# Altium schematic symbol library Enset.SCHLIB: 118 symbols
Pins are listed as number, name and electrical type; pins without a type are passive.

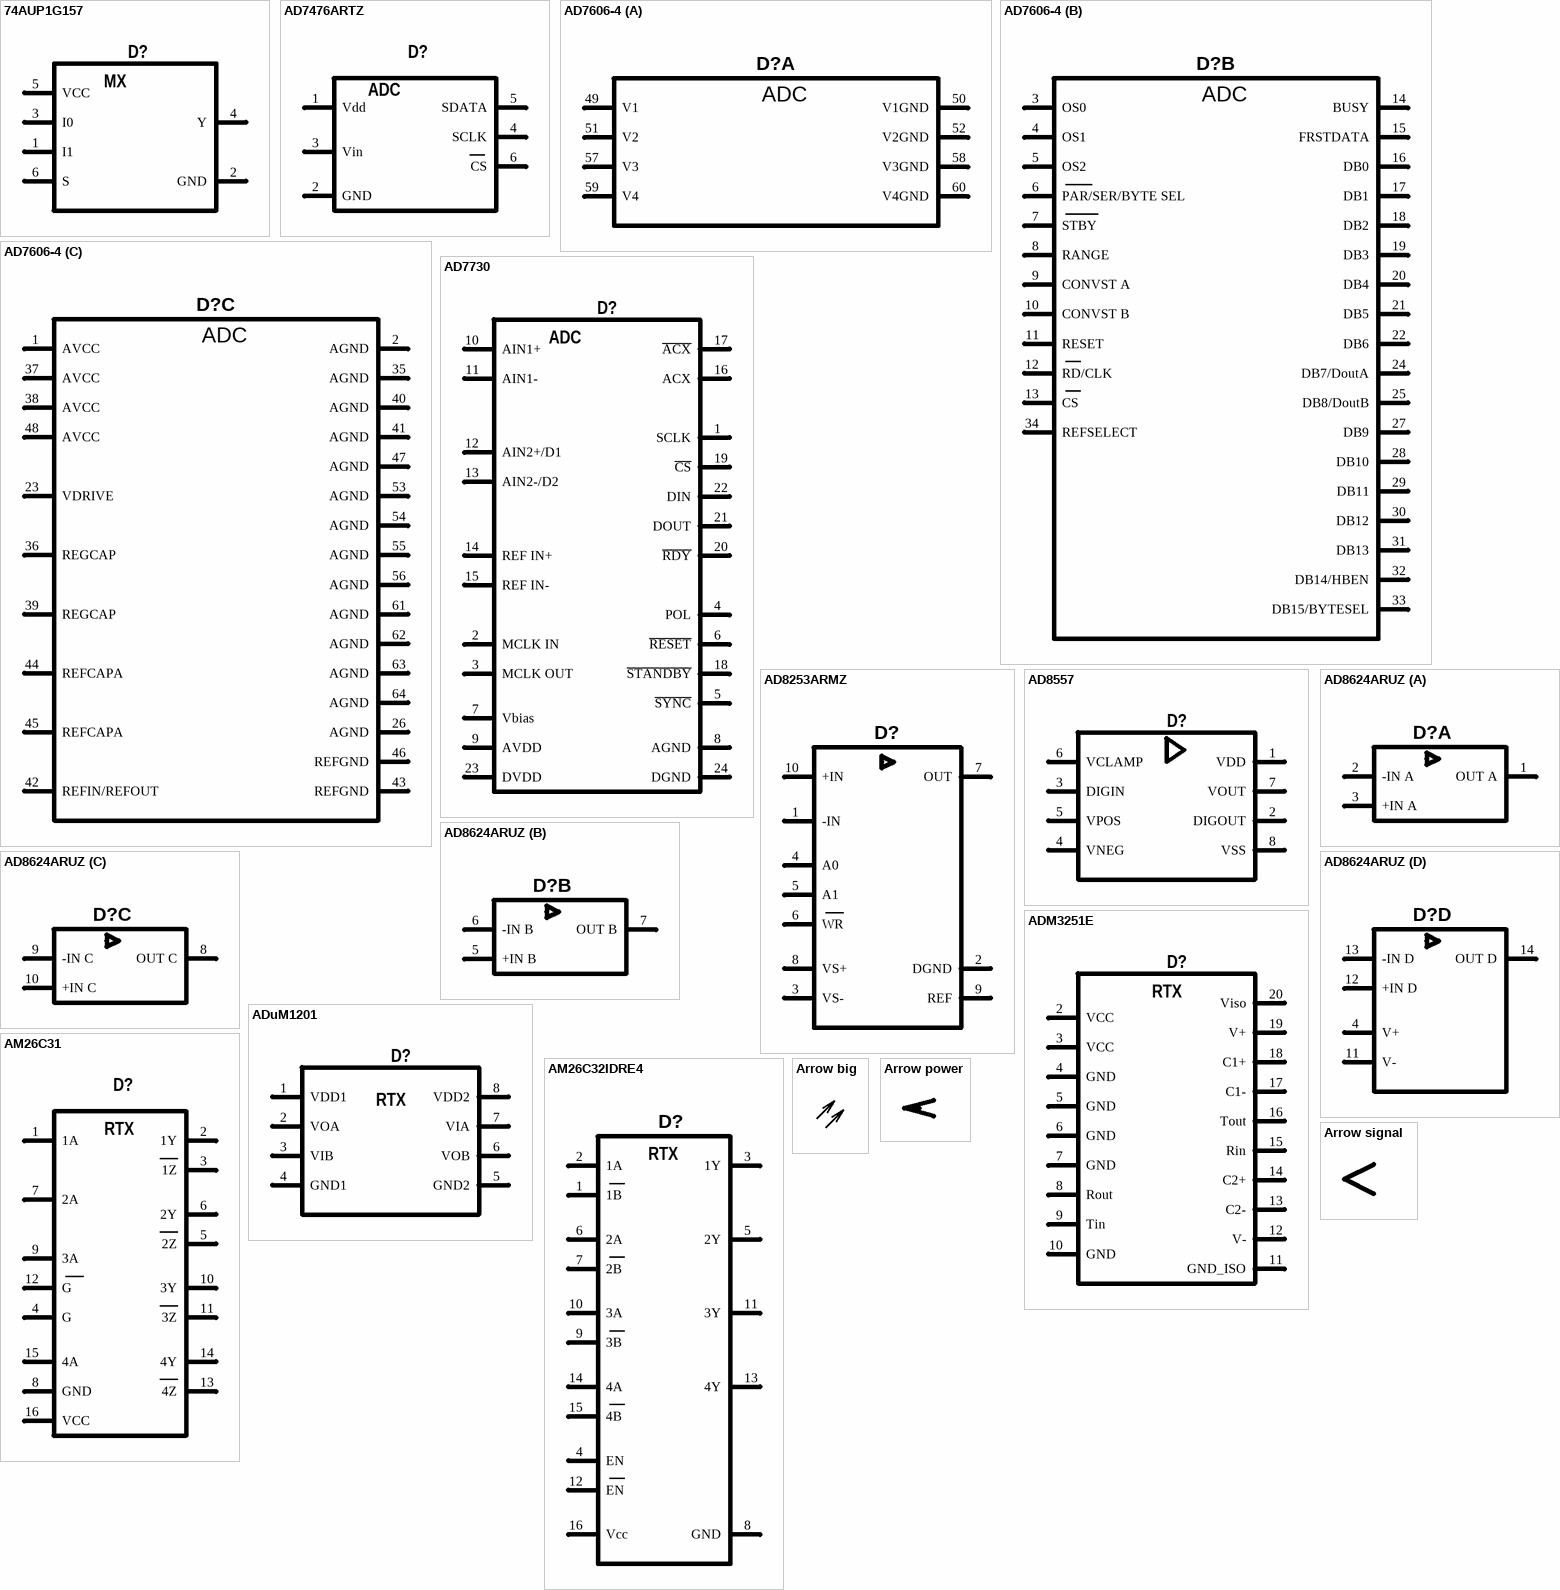
[diagram p0: symbols 74AUP1G157 to Arrow signal]

## 74AUP1G157
designator D?, comment 74AUP1G157GW  (value not drawn)
Value: 74AUP1G157GW
pins: 1 I1, 2 GND, 3 I0, 4 Y, 5 VCC, 6 S
text: MX

## AD7476ARTZ
designator D?  (value not drawn)
Value: AD7476ARTZ
pins: 1 Vdd, 2 GND, 3 Vin, 4 SCLK, 5 SDATA, 6 CS
text: ADC

## AD7606-4
designator D?, comment AD7606BSTZ  (value not drawn)
Value: AD7606BSTZ
footprint LQFP64_L (Thin QFP, 64-Leads, Body 10x10mm, Pitch 0.5mm, IPC High Density)
part A pins: 49 V1, 50 V1GND, 51 V2, 52 V2GND, 57 V3, 58 V3GND, 59 V4, 60 V4GND
part B pins: 3 OS0, 4 OS1, 5 OS2, 6 PAR/SER/BYTE SEL, 7 STBY, 8 RANGE, 9 CONVST A, 10 CONVST B, 11 RESET, 12 RD/CLK, 13 CS, 14 BUSY, 15 FRSTDATA, 16 DB0, 17 DB1, 18 DB2, 19 DB3, 20 DB4, 21 DB5, 22 DB6, 24 DB7/DoutA, 25 DB8/DoutB, 27 DB9, 28 DB10, 29 DB11, 30 DB12, 31 DB13, 32 DB14/HBEN, 33 DB15/BYTESEL, 34 REFSELECT
part C pins: 1 AVCC, 2 AGND, 23 VDRIVE, 26 AGND, 35 AGND, 36 REGCAP, 37 AVCC, 38 AVCC, 39 REGCAP, 40 AGND, 41 AGND, 42 REFIN/REFOUT, 43 REFGND, 44 REFCAPA, 45 REFCAPA, 46 REFGND, 47 AGND, 48 AVCC, 53 AGND, 54 AGND, 55 AGND, 56 AGND, 61 AGND, 62 AGND, 63 AGND, 64 AGND
part A text: ADC
part B text: ADC
part C text: ADC

## AD7730
designator D?  (value not drawn)
Value: AD7730
pins: 1 SCLK, 2 MCLK IN, 3 MCLK OUT, 4 POL, 5 ~{SYNC}, 6 ~{RESET}, 7 Vbias, 8 AGND, 9 AVDD, 10 AIN1+, 11 AIN1-, 12 AIN2+/D1, 13 AIN2-/D2, 14 REF IN+, 15 REF IN-, 16 ACX, 17 ~{ACX}, 18 ~{STANDBY}, 19 ~{CS}, 20 ~{RDY}, 21 DOUT, 22 DIN, 23 DVDD, 24 DGND
text: ADC

## AD8253ARMZ
designator D?  (value not drawn)
Value: AD8253ARMZ
footprint MSOP10 (MSOP 10-Leads)
pins: 1 -IN, 2 DGND, 3 VS-, 4 A0, 5 A1, 6 WR, 7 OUT, 8 VS+, 9 REF, 10 +IN

## AD8557
designator D?  (value not drawn)
Value: *
pins: 1 VDD, 2 DIGOUT, 3 DIGIN, 4 VNEG, 5 VPOS, 6 VCLAMP, 7 VOUT, 8 VSS

## AD8624ARUZ
designator D?  (value not drawn)
Value: AD8624ARUZ
footprint TSSOP14 (TSOP, 14-Leads, Body 5x4.4mm, Pitch 0.65mm)
part A pins: 1 OUT A, 2 -IN A, 3 +IN A
part B pins: 5 +IN B, 6 -IN B, 7 OUT B
part C pins: 8 OUT C, 9 -IN C, 10 +IN C
part D pins: 4 V+, 11 V-, 12 +IN D, 13 -IN D, 14 OUT D

## ADM3251E
designator D?
Parameter 1: ADM3251EARWZ
pins: 2 VCC, 3 VCC, 4 GND, 5 GND, 6 GND, 7 GND, 8 Rout, 9 Tin, 10 GND, 11 GND_ISO, 12 V-, 13 C2-, 14 C2+, 15 Rin, 16 Tout, 17 C1-, 18 C1+, 19 V+, 20 Viso
text: RTX

## ADuM1201
designator D?
Parameter 1: ADuM1201ARZ
pins: 1 VDD1, 2 VOA, 3 VIB, 4 GND1, 5 GND2, 6 VOB, 7 VIA, 8 VDD2
text: RTX

## AM26C31
designator D?, comment AM26C31IPW  (value not drawn)
Value: AM26C31IPW
pins: 1 1A, 2 1Y, 3 1Z, 4 G, 5 2Z, 6 2Y, 7 2A, 8 GND, 9 3A, 10 3Y, 11 3Z, 12 G, 13 4Z, 14 4Y, 15 4A, 16 VCC
text: RTX

## AM26C32IDRE4
designator D?  (value not drawn)
Differential receiver; Value: AM26C32IDRE4
pins: 1 1B, 2 1A, 3 1Y, 4 EN, 5 2Y, 6 2A, 7 2B, 8 GND, 9 3B, 10 3A, 11 3Y, 12 EN, 13 4Y, 14 4A, 15 4B, 16 Vcc
text: RTX

## Arrow big
designator *?  (value not drawn)  (graphical)

## Arrow power
designator *?  (graphical)

## Arrow signal
designator *?  (value not drawn)  (graphical)

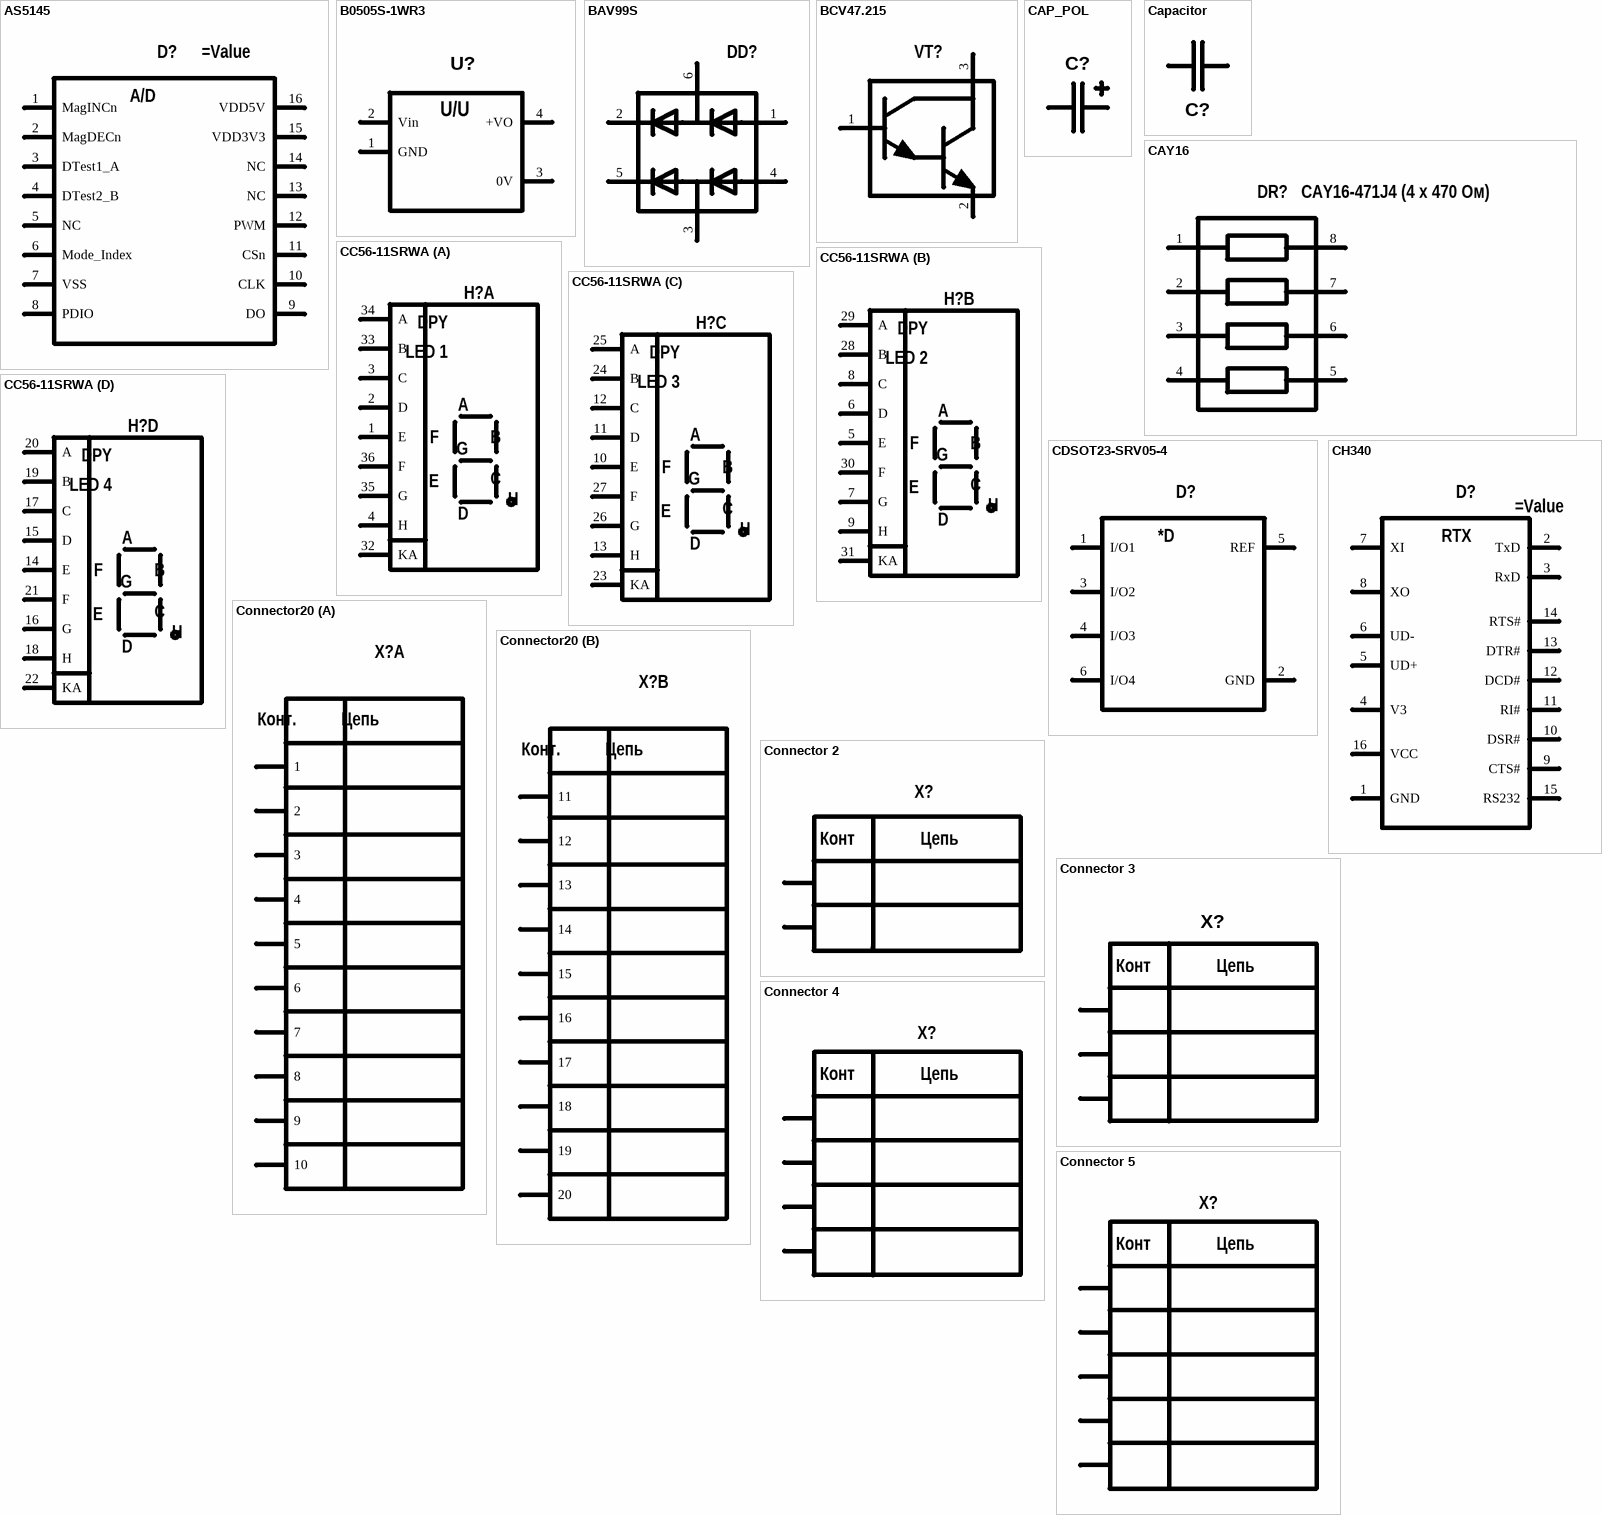
[diagram p1: symbols AS5145 to Connector 5]

## AS5145
designator D?
pins: 1 MagINCn, 2 MagDECn, 3 DTest1_A, 4 DTest2_B, 5 NC, 6 Mode_Index, 7 VSS, 8 PDIO, 9 DO, 10 CLK, 11 CSn, 12 PWM, 13 NC, 14 NC, 15 VDD3V3, 16 VDD5V
text: A/D

## B0505S-1WR3
designator U?  (value not drawn)
Isolated DC-DC; Value: B0505S-1WR3
footprint SIP4
pins: 1 GND, 2 Vin, 3 0V, 4 +VO
text: U/U

## BAV99S
designator DD?  (value not drawn)
Value: BAV99S
pins: 1 A1, 2 C1, 3, 4 A2, 5 C2, 6

## BCV47.215
designator VT?  (value not drawn)
pins: 1 B, 2 E, 3 C

## CAP_POL
designator C?, comment 293D106X9016A2TE3 (3216 10 мкФ ±10% 16 В)  (value not drawn)
Value: 293D106X9016A2TE3 (3216 10 мкФ ±10% 16 В)
footprint 3216-18 (Case A Tantalum)
pins: 1, 2

## Capacitor
designator C?, comment GRM2165C1H332JA01D (0805 C0G 3,3 нФ ±5% 50 В)  (value not drawn)
Value: GRM2165C1H332JA01D (0805 C0G 3,3 нФ ±5% 50 В)
footprint CAP0805 (Chip capacitor, Body 2.0x1.2mm)
pins: 1, 2

## CAY16
designator DR?, comment CAY16-471J4 (4 х 470 Ом)
Value: CAY16-471J4 (4 х 470 Ом)
pins: 1, 2, 3, 4, 5, 6, 7, 8

## CC56-11SRWA
designator H?  (value not drawn)
Value: CC56-11SRWA
part A pins: 1 E, 2 D, 3 C, 4 H, 32 KA, 33 B, 34 A, 35 G, 36 F
part B pins: 5 E, 6 D, 7 G, 8 C, 9 H, 28 B, 29 A, 30 F, 31 KA
part C pins: 10 E, 11 D, 12 C, 13 H, 23 KA, 24 B, 25 A, 26 G, 27 F
part D pins: 14 E, 15 D, 16 G, 17 C, 18 H, 19 B, 20 A, 21 F, 22 KA
part A text: DPY; LED 1
part B text: DPY; LED 2
part C text: DPY; LED 3
part D text: DPY; LED 4

## CDSOT23-SRV05-4
designator D?  (value not drawn)
Value: CDSOT23-SRV05-4
pins: 1 I/O1, 2 GND, 3 I/O2, 4 I/O3, 5 REF, 6 I/O4
text: *D

## CH340
designator D?
pins: 1 GND, 2 TxD, 3 RxD, 4 V3, 5 UD+, 6 UD-, 7 XI, 8 XO, 9 CTS#, 10 DSR#, 11 RI#, 12 DCD#, 13 DTR#, 14 RTS#, 15 RS232, 16 VCC
text: RTX

## Connector20
designator X?  (value not drawn)
part A pins: 1, 2, 3, 4, 5, 6, 7, 8, 9, 10
part B pins: 11, 12, 13, 14, 15, 16, 17, 18, 19, 20
part A text: Конт.; Цепь
part B text: Конт.; Цепь

## Connector 2
designator X?  (value not drawn)
Value: PLS-2
pins: 1, 2
text: Конт; Цепь

## Connector 3
designator X?, comment BCH-350HF- 3 GY - 5430629  (value not drawn)
Value: BCH-350HF- 3 GY - 5430629
footprint BCH-350HF- 3 GY - 5430629
footprint BCH-350HF- 3 GY - 5430629
pins: 1, 2, 3
text: Конт; Цепь

## Connector 4
designator X?  (value not drawn)
pins: 1, 2, 3, 4
text: Конт; Цепь

## Connector 5
designator X?
pins: 1, 2, 3, 4, 5
text: Конт; Цепь

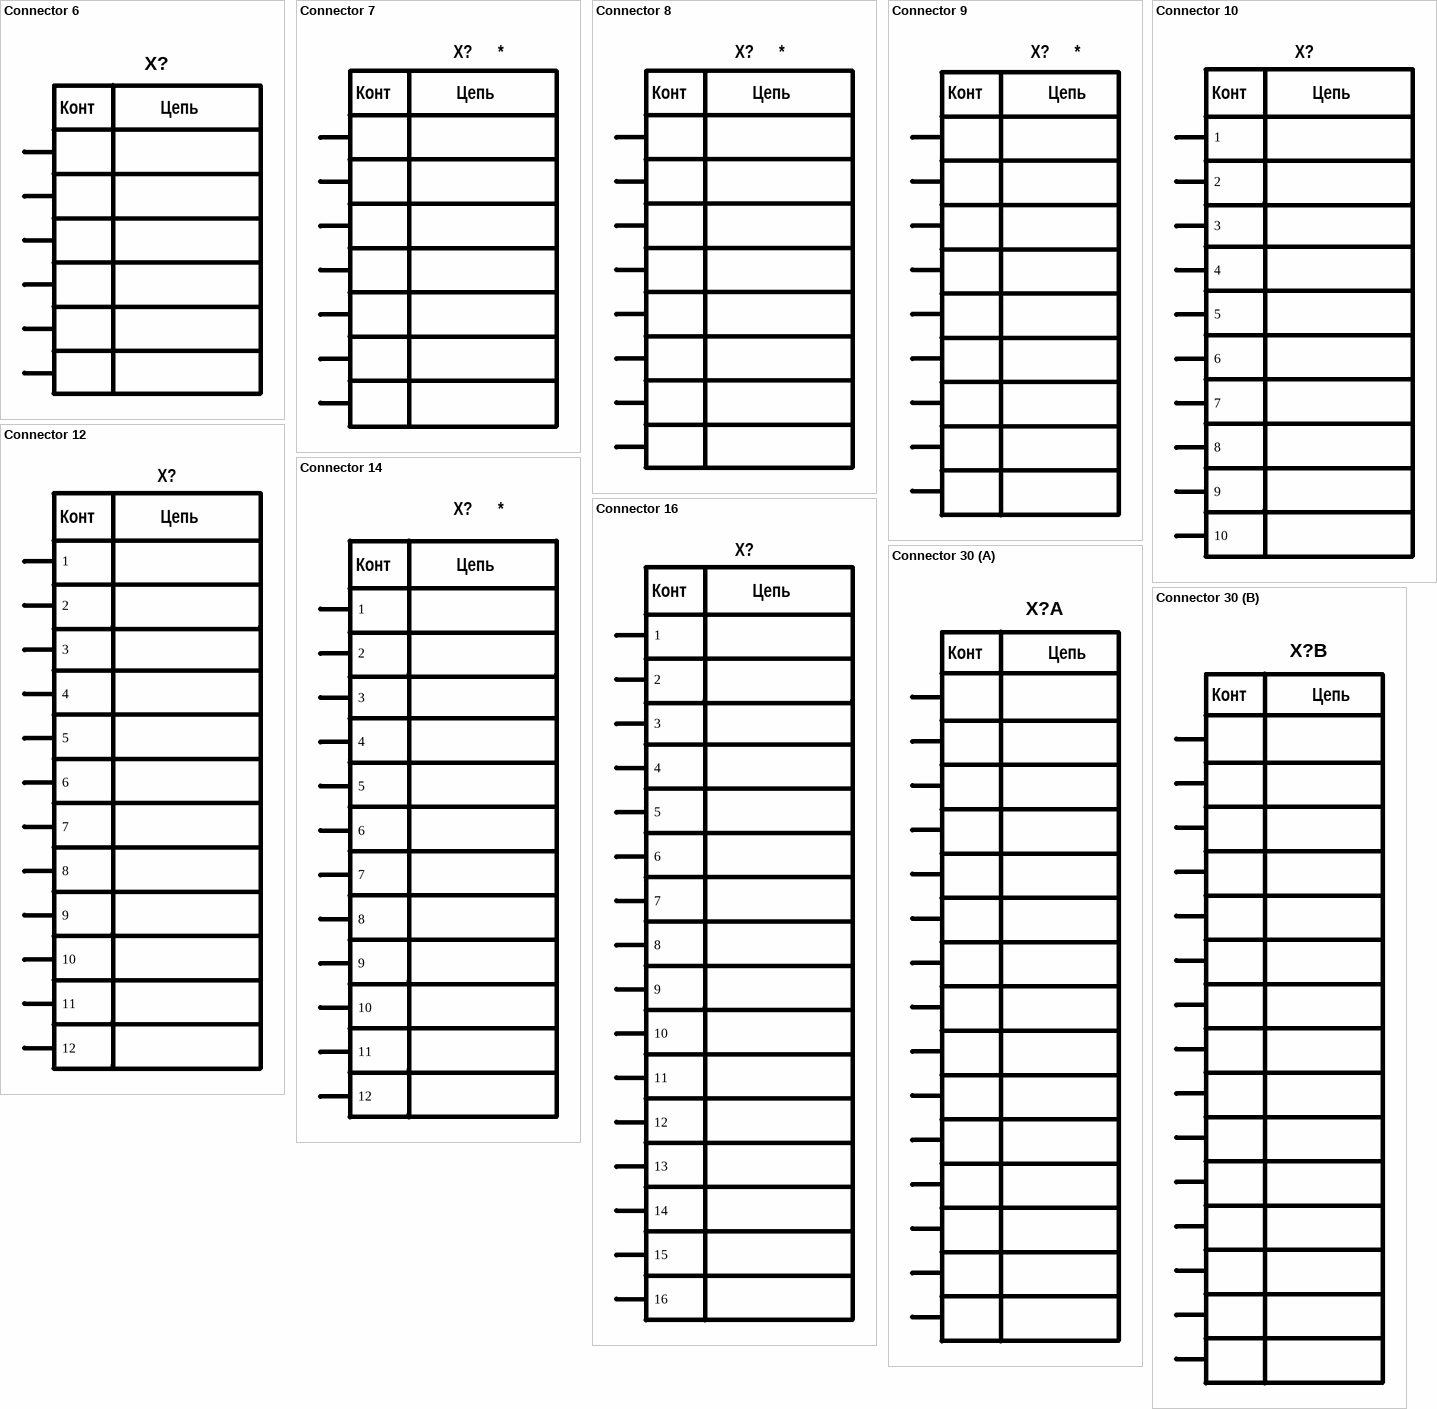
[diagram p2: symbols Connector 6 to Connector 30]

## Connector 6
designator X?, comment 292304-1  (value not drawn)
Value: 292304-1
footprint USB2.5-2H4E (Connector; USB1.1, Type B, Thru-Hole; 4 Position; Right Angle)
pins: 1, 2, 3, 4, 5, 6
text: Конт; Цепь

## Connector 7
designator X?
Value: *
pins: 1, 2, 3, 4, 5, 6, 7
text: Конт; Цепь

## Connector 8
designator X?
Value: *
pins: 1, 2, 3, 4, 5, 6, 7, 8
text: Конт; Цепь

## Connector 9
designator X?
Value: *
pins: 1, 2, 3, 4, 5, 6, 7, 8, 9
text: Конт; Цепь

## Connector 10
designator X?  (value not drawn)
Value: *
pins: 1, 2, 3, 4, 5, 6, 7, 8, 9, 10
text: Конт; Цепь

## Connector 12
designator X?  (value not drawn)
Value: *
pins: 1, 2, 3, 4, 5, 6, 7, 8, 9, 10, 11, 12
text: Конт; Цепь

## Connector 14
designator X?
Value: *
pins: 1, 2, 3, 4, 5, 6, 7, 8, 9, 10, 11, 12
text: Конт; Цепь

## Connector 16
designator X?  (value not drawn)
Value: *
pins: 1, 2, 3, 4, 5, 6, 7, 8, 9, 10, 11, 12, 13, 14, 15, 16
text: Конт; Цепь

## Connector 30
designator X?, comment PBD-30  (value not drawn)
Value: PBD-30
footprint PBD-30 (Розетка прямая двухрядная высота 8,5 мм)
part A pins: 1, 3, 5, 7, 9, 11, 13, 15, 17, 19, 21, 23, 25, 27, 29
part B pins: 2, 4, 6, 8, 10, 12, 14, 16, 18, 20, 22, 24, 26, 28, 30
part A text: Конт; Цепь
part B text: Конт; Цепь

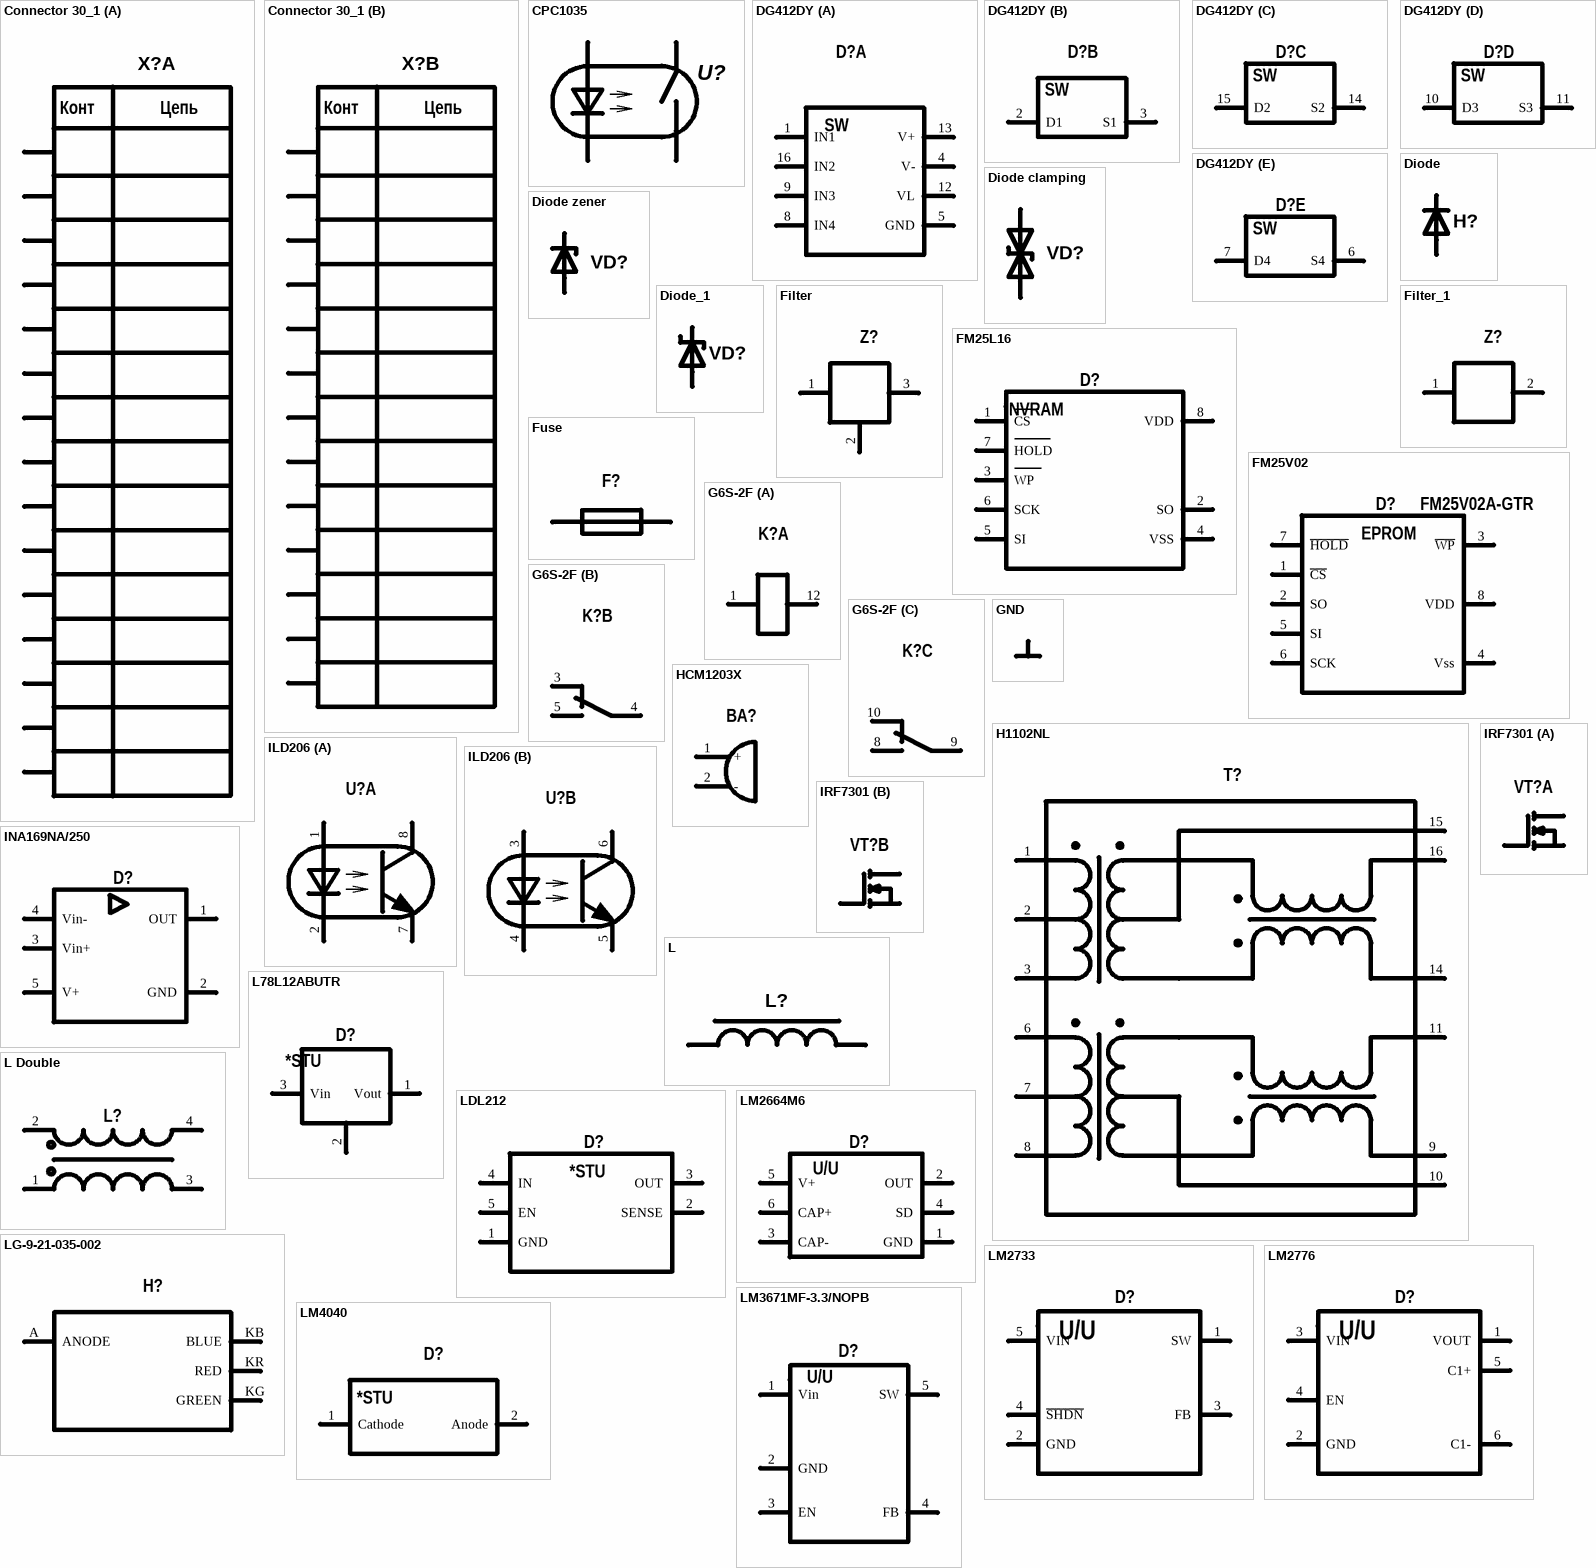
[diagram p3: symbols Connector 30_1 to LM4040]

## Connector 30_1
designator X?, comment PBD-30  (value not drawn)
Value: PBD-30
footprint PBD-30 (Розетка прямая двухрядная высота 8,5 мм)
part A pins: 6, 7, 8, 9, 10, 11, 12, 13, 14, 15, 16, 17, 18, 19, 20
part B pins: 1, 2, 3, 4, 5, 22, 24, 25, 26, 27, 28, 29, 30
part A text: Конт; Цепь
part B text: Конт; Цепь

## CPC1035
designator U?  (value not drawn)
Opto Relay 35 Ohm 350 V; Vaue: CPC1035
footprint SOP-4 (Footprint not found)
pins: 1 A, 2 K, 3 E, 4 C

## DG412DY
designator D?  (value not drawn)
Precision Monolithic Quad SPST CMOS Analog Switches; Value: DG412DY
footprint SO16_N (SOIC, 16-Leads, Body 9.9x3.9mm, Pitch 1.27mm, IPC Medium Density)
part A pins: 1 IN1, 4 V-, 5 GND, 8 IN4, 9 IN3, 12 VL, 13 V+, 16 IN2
part B pins: 2 D1, 3 S1
part C pins: 14 S2, 15 D2
part D pins: 10 D3, 11 S3
part E pins: 6 S4, 7 D4
part A text: SW
part B text: SW
part C text: SW
part D text: SW
part E text: SW

## Diode
designator H?, comment KP-2012SGC  (value not drawn)
Diode; Value: KP-2012SGC
footprint KP-2012 (LED)
pins: A, K

## Diode clamping
designator VD?, comment SM6T10CA  (value not drawn)
Clamping diode; Value: SM6T10CA
footprint DO-214AA non polar (Diode)
pins: 1, 2

## Diode zener
designator VD?, comment MM3Z3V3T1G  (value not drawn)
Diode zener; Value: MM3Z3V3T1G
footprint SOD-323 (SOD-323/SC-76; 2 Leads; Body 1.7 x 1.3 mm, (LxW))
pins: A, K

## Diode_1
designator VD?, comment STPS1L30U  (value not drawn)
Diode shottky; Value: STPS1L30U
footprint DO-214AA (Diode)
pins: A, K

## Filter
designator Z?
pins: 1, 2, 3

## Filter_1
designator Z?
pins: 1, 2

## FM25L16
designator D?, comment FM25L16-G  (value not drawn)
Value: FM25L16-G
pins: 1 CS, 2 SO, 3 WP, 4 VSS, 5 SI, 6 SCK, 7 HOLD, 8 VDD
text: NVRAM

## FM25V02
designator D?, comment FM25V02A-GTR
Value: FM25V02A-GTR
pins: 1 ~{CS}, 2 SO, 3 ~{WP}, 4 Vss, 5 SI, 6 SCK, 7 ~{HOLD}, 8 VDD
text: EPROM

## Fuse
designator F?, comment 1812L050PR (1 Ом 500 мА)  (value not drawn)
Value: 1812L050PR (1 Ом 500 мА)
footprint 1812L (Little fuse)
pins: 1, 2

## G6S-2F
designator K?, comment G6S-2F5DC  (value not drawn)
Surface-mounting Relay; Value: G6S-2F5DC
part A pins: 1 +, 12 -
part B pins: 3, 4, 5
part C pins: 8, 9, 10

## GND
designator *?  (value not drawn)  (graphical)

## H1102NL
designator T?
pins: 1, 2, 3, 6, 7, 8, 9, 10, 11, 14, 15, 16

## HCM1203X
designator BA?  (value not drawn)
Value: HCM1203X
pins: 1 +, 2 -

## ILD206
designator U?, comment ILD206T  (value not drawn)
Optocoupler, Phototransistor Output, Dual Channel,; Value: ILD206T
part A pins: 1 A1, 2 C1, 7 E1, 8 Col1
part B pins: 3 A2, 4 C2, 5 E2, 6 Col2

## INA169NA/250
designator D?  (value not drawn)
pins: 1 OUT, 2 GND, 3 Vin+, 4 Vin-, 5 V+

## IRF7301
designator VT?  (value not drawn)
Value: IRF7301
footprint SO-8_N (Footprint not found)
3D model SO-8 (PCB3D Model)
part A pins: 1, 2, 7, 8
part B pins: 3, 4, 5, 6

## L
designator L?, comment VLS252012HBX-100M1 (10 мкГн ±20% 0,85 А 0,45 Ом)  (value not drawn)
Value: VLS252012HBX-100M1 (10 мкГн ±20% 0,85 А 0,45 Ом)
footprint VLS252012
pins: 1, 2

## L78L12ABUTR
designator D?  (value not drawn)
footprint SOT-89 (Footprint not found)
pins: 1 Vout, 2 GND, 3 Vin
text: *STU

## L Double
designator L?  (value not drawn)
Value: *
footprint L Double (Footprint not found)
pins: 1, 2, 3, 4

## LDL212
designator D?, comment LDL212PU50R  (value not drawn)
Value: LDL212PU50R
pins: 1 GND, 2 SENSE, 3 OUT, 4 IN, 5 EN
text: *STU

## LG-9-21-035-002
designator H?  (value not drawn)
Value: LG-9-21-035-002
pins: A ANODE, KB BLUE, KG GREEN, KR RED

## LM2664M6
designator D?  (value not drawn)
pins: 1 GND, 2 OUT, 3 CAP-, 4 SD, 5 V+, 6 CAP+
text: U/U

## LM2733
designator D?, comment LM2733XMF  (value not drawn)
Value: LM2733XMF
pins: 1 SW, 2 GND, 3 FB, 4 ~{SHDN}, 5 VIN
text: U/U

## LM2776
designator D?, comment LM2776DBVT  (value not drawn)
Value: LM2776DBVT
pins: 1 VOUT, 2 GND, 3 VIN, 4 EN, 5 C1+, 6 C1-
text: U/U

## LM3671MF-3.3/NOPB
designator D?  (value not drawn)
pins: 1 Vin, 2 GND, 3 EN, 4 FB, 5 SW
text: U/U

## LM4040
designator D?, comment LM4040C25IDBZR  (value not drawn)
Precision Micropower Shunt Voltage Reference; Value: LM4040C25IDBZR
pins: 1 Cathode, 2 Anode
text: *STU

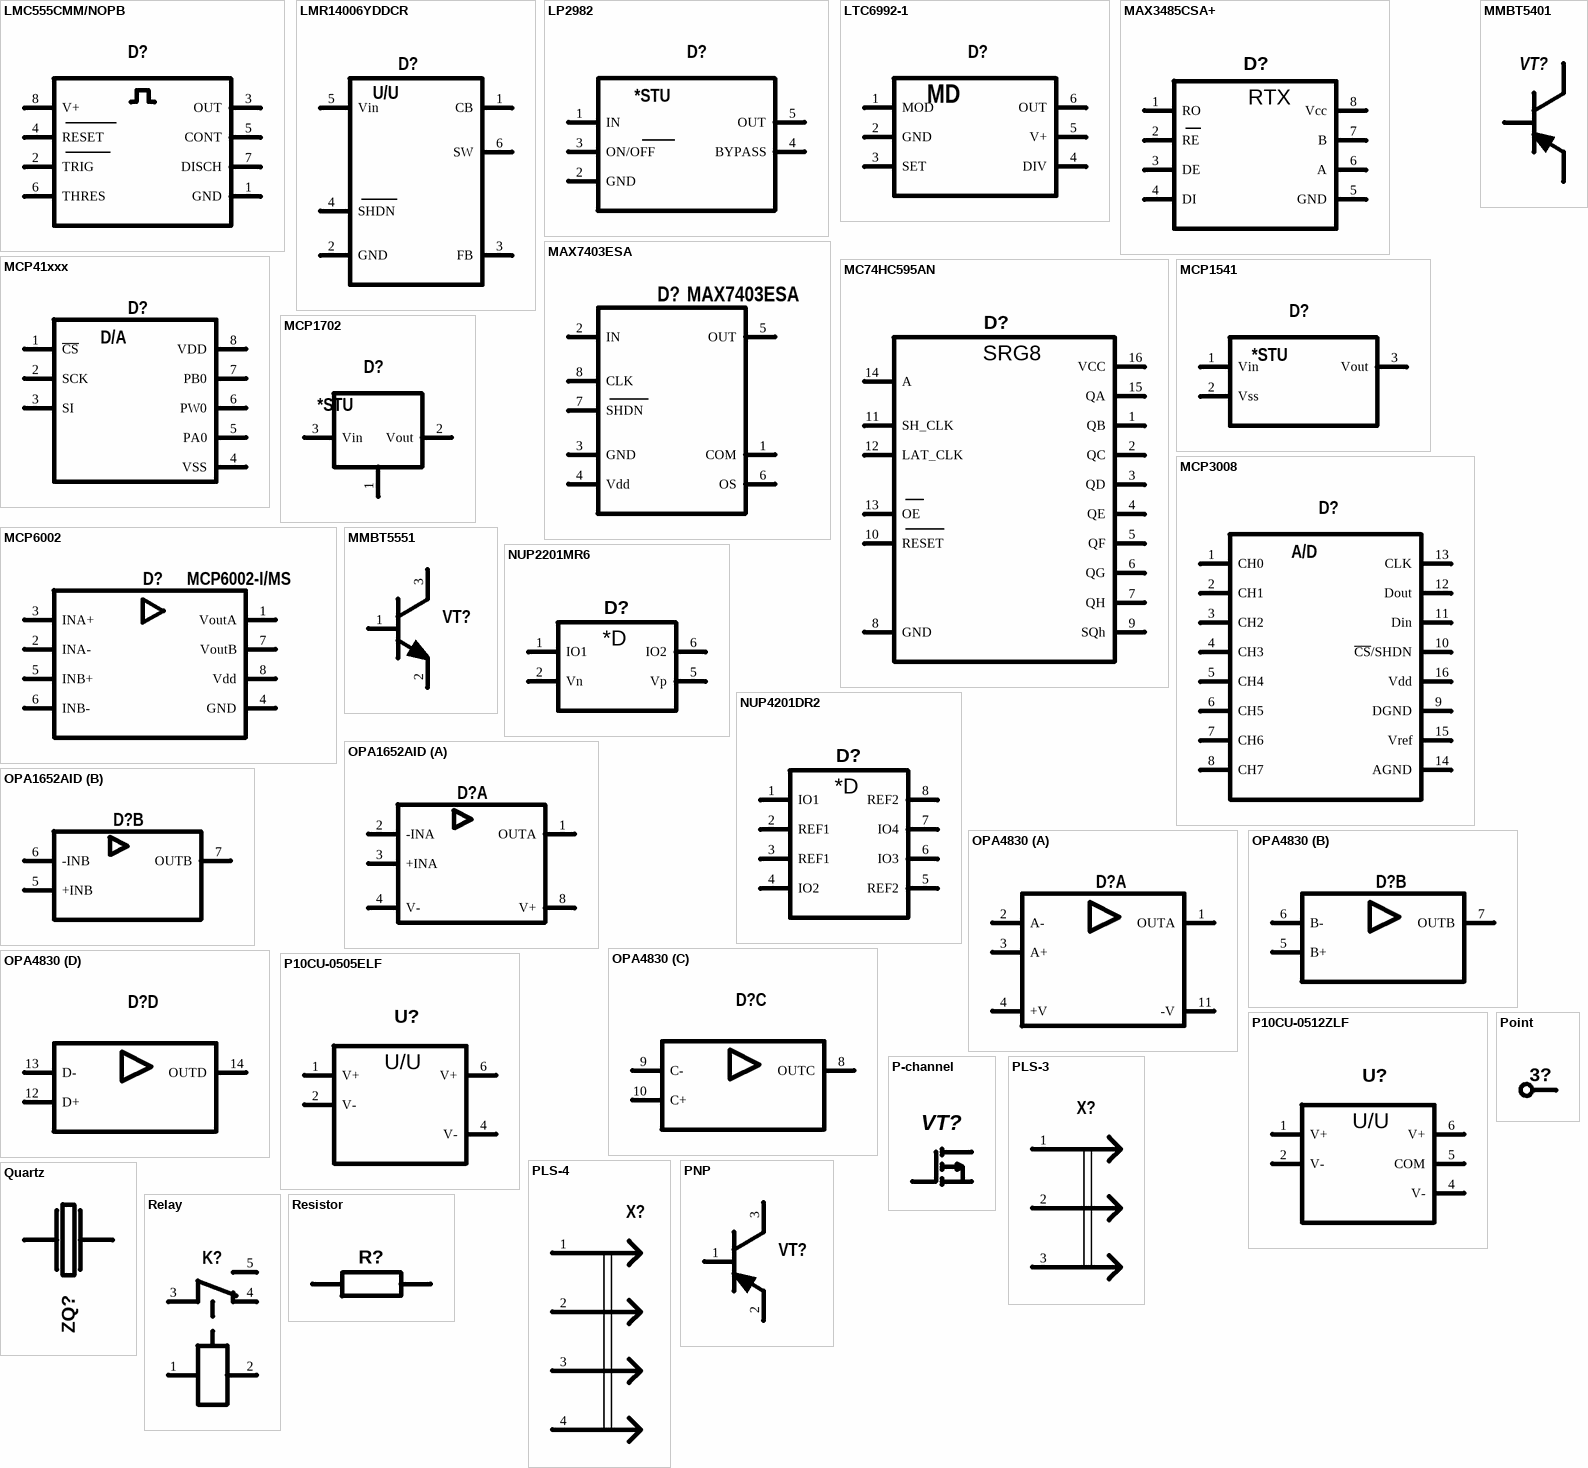
[diagram p4: symbols LMC555CMM/NOPB to Resistor]

## LMC555CMM/NOPB
designator D?  (value not drawn)
Value: LMC555CMM/NOPB
pins: 1 GND, 2 TRIG, 3 OUT, 4 RESET, 5 CONT, 6 THRES, 7 DISCH, 8 V+

## LMR14006YDDCR
designator D?  (value not drawn)
pins: 1 CB, 2 GND, 3 FB, 4 SHDN, 5 Vin, 6 SW
text: U/U

## LP2982
designator D?  (value not drawn)
50-mA Micropower Ultra-Low-Dropout LDO in SOT-23 Package; Value: LP2982IM5-5.0/NOPB
pins: 1 IN, 2 GND, 3 ON/OFF, 4 BYPASS, 5 OUT
text: *STU

## LTC6992-1
designator D?, comment LTC6992CS6-1#TRMPBF  (value not drawn)
Value: LTC6992CS6-1#TRMPBF
pins: 1 MOD, 2 GND, 3 SET, 4 DIV, 5 V+, 6 OUT
text: MD

## MAX3485CSA+
designator D?  (value not drawn)
Value: MAX3485CSA+
footprint SO-8 (Small Outline; 8 Leads; Body Width 3.9 mm; Pitch 1.27 mm)
pins: 1 RO, 2 RE, 3 DE, 4 DI, 5 GND, 6 A, 7 B, 8 Vcc
text: RTX

## MAX7403ESA
designator D?
Elliptic 8-order LPF; Value: MAX7403ESA
pins: 1 COM, 2 IN, 3 GND, 4 Vdd, 5 OUT, 6 OS, 7 SHDN, 8 CLK

## MC74HC595AN
designator D?, comment MC74HC595ADG  (value not drawn)
Value: MC74HC595ADG
footprint SO16_N (SOIC, 16-Leads, Body 9.9x3.9mm, Pitch 1.27mm, IPC Medium Density)
pins: 1 QB, 2 QC, 3 QD, 4 QE, 5 QF, 6 QG, 7 QH, 8 GND, 9 SQh, 10 RESET, 11 SH_CLK, 12 LAT_CLK, 13 OE, 14 A, 15 QA, 16 VCC
text: SRG8

## MCP41xxx
designator D?  (value not drawn)
Value: *
pins: 1 ~{CS}, 2 SCK, 3 SI, 4 VSS, 5 PA0, 6 PW0, 7 PB0, 8 VDD
text: D/A

## MCP1541
designator D?, comment MCP1541T-I/TT  (value not drawn)
Value: MCP1541T-I/TT
pins: 1 Vin, 2 Vss, 3 Vout
text: *STU

## MCP1702
designator D?, comment MCP1702T-3302E/CB  (value not drawn)
Value: MCP1702T-3302E/CB
pins: 1 GND, 2 Vout, 3 Vin
text: *STU

## MCP3008
designator D?, comment MCP3008-I/SL  (value not drawn)
Value: MCP3008-I/SL
pins: 1 CH0, 2 CH1, 3 CH2, 4 CH3, 5 CH4, 6 CH5, 7 CH6, 8 CH7, 9 DGND, 10 ~{CS}/SHDN, 11 Din, 12 Dout, 13 CLK, 14 AGND, 15 Vref, 16 Vdd
text: A/D

## MCP6002
designator D?, comment MCP6002-I/MS
Value: MCP6002-I/MS
pins: 1 VoutA, 2 INA-, 3 INA+, 4 GND, 5 INB+, 6 INB-, 7 VoutB, 8 Vdd

## MMBT5401
designator VT?  (value not drawn)
pins: 1 E, 2 B, 3 C

## MMBT5551
designator VT?  (value not drawn)
NPN general-purpose transistor; Value: MMBT5551
pins: 1 B, 2 E, 3 C

## NUP2201MR6
designator D?, comment NUP2201MR6T1G  (value not drawn)
Value: NUP2201MR6T1G
footprint SOIC8N_L (SOIC, 8-Leads, Body 4.9x3.9mm, Pitch 1.27mm, IPC High Density)
pins: 1 IO1, 2 Vn, 5 Vp, 6 IO2
text: *D

## NUP4201DR2
designator D?, comment NUP4201DR2G  (value not drawn)
Value: NUP4201DR2G
footprint SOIC8N_L (SOIC, 8-Leads, Body 4.9x3.9mm, Pitch 1.27mm, IPC High Density)
pins: 1 IO1, 2 REF1, 3 REF1, 4 IO2, 5 REF2, 6 IO3, 7 IO4, 8 REF2
text: *D

## OPA1652AID
designator D?  (value not drawn)
part A pins: 1 OUTA, 2 -INA, 3 +INA, 4 V-, 8 V+
part B pins: 5 +INB, 6 -INB, 7 OUTB

## OPA4830
designator D?  (value not drawn)
Value: *
part A pins: 1 OUTA, 2 A-, 3 A+, 4 +V, 11 -V
part B pins: 5 B+, 6 B-, 7 OUTB
part C pins: 8 OUTC, 9 C-, 10 C+
part D pins: 12 D+, 13 D-, 14 OUTD

## P10CU-0505ELF
designator U?  (value not drawn)
Isolated DC-DC; Value: P10CU-0505ELF
footprint SIP4
pins: 1 V+, 2 V-, 4 V-, 6 V+
text: U/U

## P10CU-0512ZLF
designator U?  (value not drawn)
Isolated DC-DC; Value: P10CU-0512ZLF
footprint SIP5
pins: 1 V+, 2 V-, 4 V-, 5 COM, 6 V+
text: U/U

## P-channel
designator VT?  (value not drawn)
Value: *
pins: 1 G, 2 D, 3 S, 7

## PLS-3
designator X?  (value not drawn)
Value: PLS-3
pins: 1, 2, 3

## PLS-4
designator X?, comment Соединитель штыревой PLS-4  (value not drawn)
Value: Соединитель штыревой PLS-4
footprint PLS-4
pins: 1, 2, 3, 4

## PNP
designator VT?
PNP general-purpose transistor
pins: 1 B, 2 E, 3 C

## Point
designator 3?
footprint PADROUND (Pad Round)
pins: 1

## Quartz
designator ZQ?, comment KX-3H 8.0 MHz  (value not drawn)
Value: KX-3H 8.0 MHz
footprint HC49/U3H (Quartz resonator)
pins: 1, 2

## Relay
designator K?  (value not drawn)
Value: *
pins: 1, 2, 3, 4, 5

## Resistor
designator R?, comment RT0805BRD071KL (1 кОм ±0,1%)  (value not drawn)
Value: RT0805BRD071KL (1 кОм ±0,1%)
footprint RES0805 (Chip Resistor, Body 2.0x1.2mm, IPC High Density)
pins: 1, 2

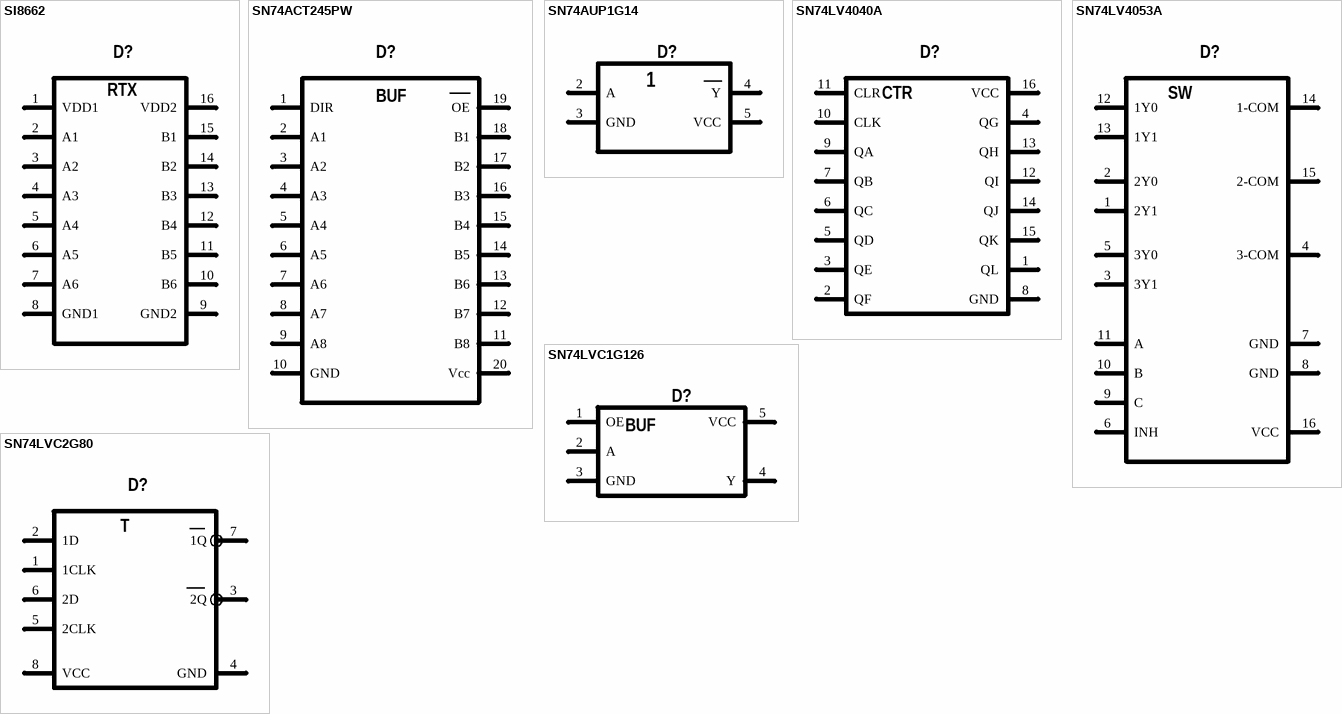
[diagram p5: symbols SI8662 to SN74LVC2G80]

## SI8662
designator D?, comment SI8662BD-B-IS  (value not drawn)
Value: SI8662BD-B-IS
pins: 1 VDD1, 2 A1, 3 A2, 4 A3, 5 A4, 6 A5, 7 A6, 8 GND1, 9 GND2, 10 B6, 11 B5, 12 B4, 13 B3, 14 B2, 15 B1, 16 VDD2
text: RTX

## SN74ACT245PW
designator D?
pins: 1 DIR, 2 A1, 3 A2, 4 A3, 5 A4, 6 A5, 7 A6, 8 A7, 9 A8, 10 GND, 11 B8, 12 B7, 13 B6, 14 B5, 15 B4, 16 B3, 17 B2, 18 B1, 19 OE, 20 Vcc
text: BUF

## SN74AUP1G14
designator D?, comment SN74AUP1G14DBVR  (value not drawn)
Low-Power Single Schmitt-Trigger Inverter; Value: SN74AUP1G14DBVR
pins: 2 A, 3 GND, 4 Y, 5 VCC
text: 1

## SN74LV4040A
designator D?, comment SN74LV4040APW  (value not drawn)
12-bit asynchronous binary counters; Value: SN74LV4040APW
pins: 1 QL, 2 QF, 3 QE, 4 QG, 5 QD, 6 QC, 7 QB, 8 GND, 9 QA, 10 CLK, 11 CLR, 12 QI, 13 QH, 14 QJ, 15 QK, 16 VCC
text: CTR

## SN74LV4053A
designator D?, comment SN74LV4053ARGY  (value not drawn)
TRIPLE 2-CHANNEL ANALOG MULTIPLEXERS/DEMULTIPLEXERS; Value: SN74LV4053ARGY
pins: 1 2Y1, 2 2Y0, 3 3Y1, 4 3-COM, 5 3Y0, 6 INH, 7 GND, 8 GND, 9 C, 10 B, 11 A, 12 1Y0, 13 1Y1, 14 1-COM, 15 2-COM, 16 VCC
text: SW

## SN74LVC1G126
designator D?, comment SN74LVC1G126DCKR  (value not drawn)
Value: SN74LVC1G126DCKR
pins: 1 OE, 2 A, 3 GND, 4 Y, 5 VCC
text: BUF

## SN74LVC2G80
designator D?, comment SN74LVC2G80DCU  (value not drawn)
Value: SN74LVC2G80DCU
pins: 1 1CLK, 2 1D, 3 2Q, 4 GND, 5 2CLK, 6 2D, 7 1Q, 8 VCC
text: T

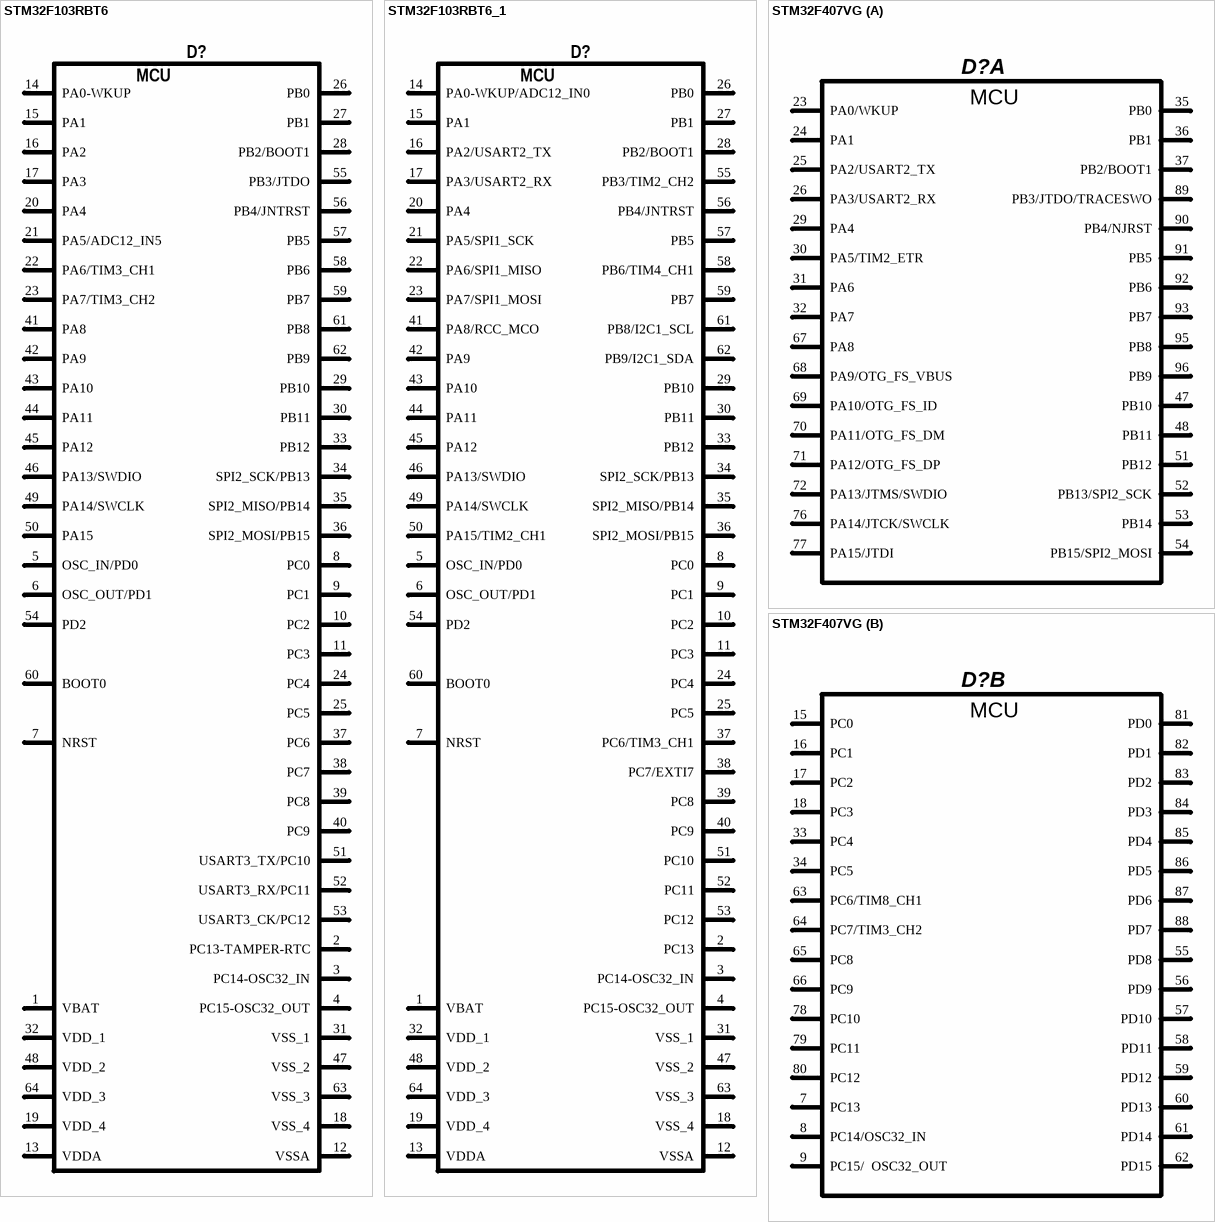
[diagram p6: symbols STM32F103RBT6 to STM32F407VG]

## STM32F103RBT6
designator D?  (value not drawn)
Value: STM32F103RBT6
pins: 1 VBAT (power), 2 PC13-TAMPER-RTC, 3 PC14-OSC32_IN, 4 PC15-OSC32_OUT, 5 OSC_IN/PD0, 6 OSC_OUT/PD1, 7 NRST, 8 PC0, 9 PC1, 10 PC2, 11 PC3, 12 VSSA (power), 13 VDDA (power), 14 PA0-WKUP, 15 PA1, 16 PA2, 17 PA3, 18 VSS_4 (power), 19 VDD_4 (power), 20 PA4, 21 PA5/ADC12_IN5, 22 PA6/TIM3_CH1, 23 PA7/TIM3_CH2, 24 PC4, 25 PC5, 26 PB0, 27 PB1, 28 PB2/BOOT1, 29 PB10, 30 PB11, 31 VSS_1 (power), 32 VDD_1 (power), 33 PB12, 34 SPI2_SCK/PB13, 35 SPI2_MISO/PB14, 36 SPI2_MOSI/PB15, 37 PC6, 38 PC7, 39 PC8, 40 PC9, 41 PA8, 42 PA9, 43 PA10, 44 PA11, 45 PA12, 46 PA13/SWDIO, 47 VSS_2 (power), 48 VDD_2 (power), 49 PA14/SWCLK, 50 PA15, 51  USART3_TX/PC10, 52  USART3_RX/PC11, 53 USART3_CK/PC12, 54 PD2, 55 PB3/JTDO, 56 PB4/JNTRST, 57 PB5, 58 PB6, 59 PB7, 60 BOOT0, 61 PB8, 62 PB9, 63 VSS_3 (power), 64 VDD_3 (power)
text: MCU

## STM32F103RBT6_1
designator D?  (value not drawn)
Value: STM32F103RBT6
pins: 1 VBAT (power), 2 PC13, 3 PC14-OSC32_IN, 4 PC15-OSC32_OUT, 5 OSC_IN/PD0, 6 OSC_OUT/PD1, 7 NRST, 8 PC0, 9 PC1, 10 PC2, 11 PC3, 12 VSSA (power), 13 VDDA (power), 14 PA0-WKUP/ADC12_IN0, 15 PA1, 16 PA2/USART2_TX, 17 PA3/USART2_RX, 18 VSS_4 (power), 19 VDD_4 (power), 20 PA4, 21 PA5/SPI1_SCK, 22 PA6/SPI1_MISO, 23 PA7/SPI1_MOSI, 24 PC4, 25 PC5, 26 PB0, 27 PB1, 28 PB2/BOOT1, 29 PB10, 30 PB11, 31 VSS_1 (power), 32 VDD_1 (power), 33 PB12, 34 SPI2_SCK/PB13, 35 SPI2_MISO/PB14, 36 SPI2_MOSI/PB15, 37 PC6/TIM3_CH1, 38 PC7/EXTI7, 39 PC8, 40 PC9, 41 PA8/RCC_MCO, 42 PA9, 43 PA10, 44 PA11, 45 PA12, 46 PA13/SWDIO, 47 VSS_2 (power), 48 VDD_2 (power), 49 PA14/SWCLK, 50 PA15/TIM2_CH1, 51 PC10, 52 PC11, 53 PC12, 54 PD2, 55 PB3/TIM2_CH2, 56 PB4/JNTRST, 57 PB5, 58 PB6/TIM4_CH1, 59 PB7, 60 BOOT0, 61 PB8/I2C1_SCL, 62 PB9/I2C1_SDA, 63 VSS_3 (power), 64 VDD_3 (power)
text: MCU

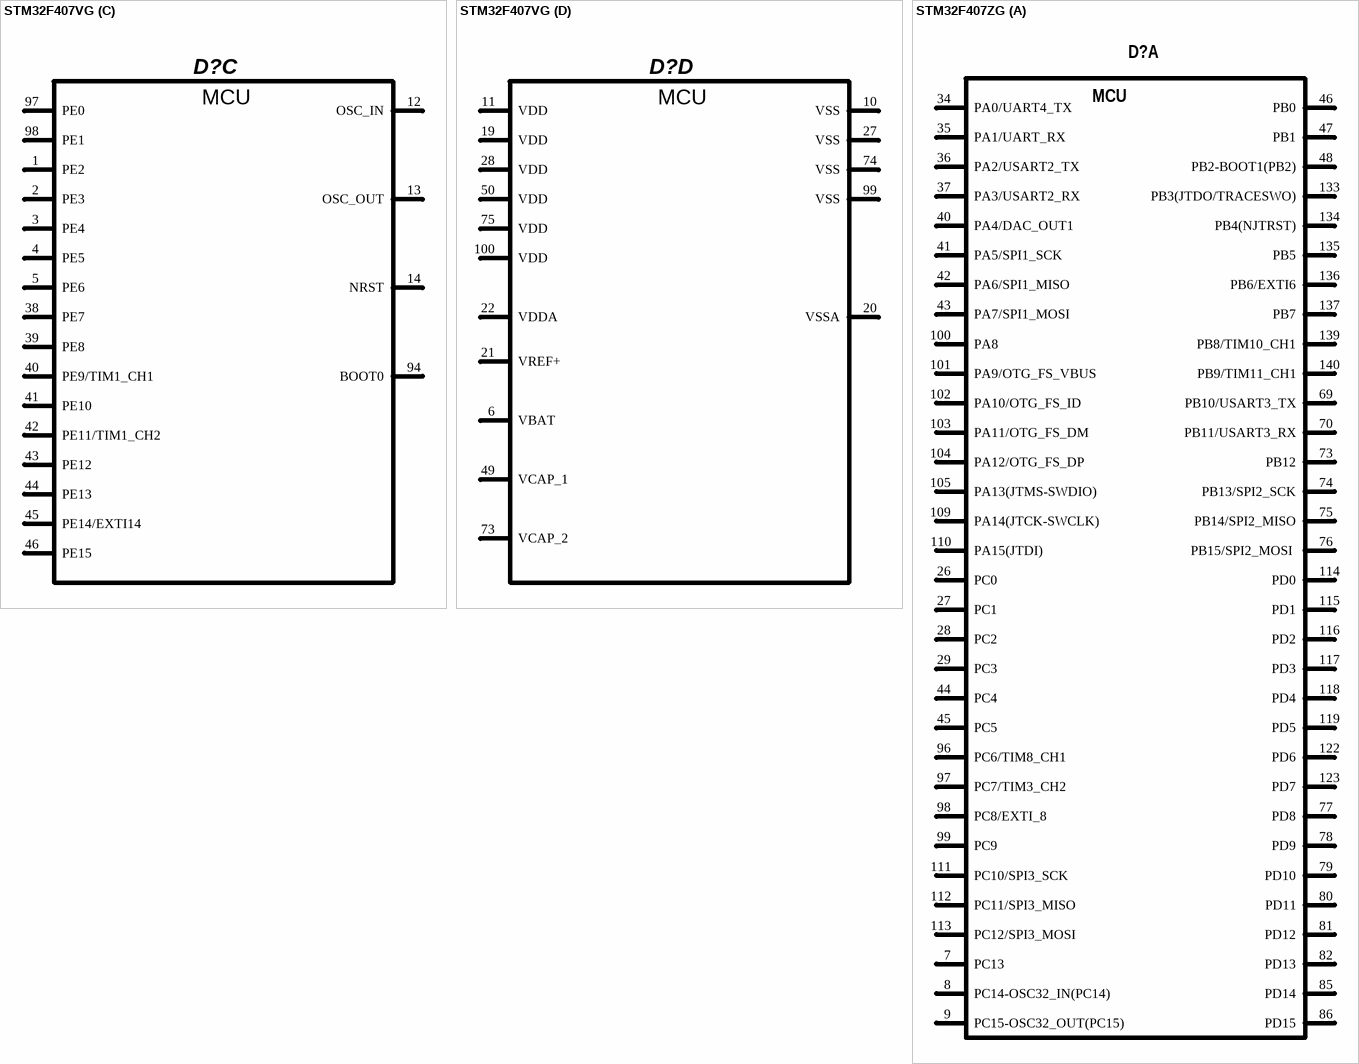
[diagram p7: symbols STM32F407VG to STM32F407ZG]

## STM32F407VG
designator D?, comment STM32F407VGT6  (value not drawn)
Value: STM32F407VGT6
part A pins: 23 PA0/WKUP, 24 PA1, 25 PA2/USART2_TX, 26 PA3/USART2_RX, 29 PA4, 30 PA5/TIM2_ETR, 31 PA6, 32 PA7, 35 PB0, 36 PB1, 37 PB2/BOOT1, 47 PB10, 48 PB11, 51 PB12, 52 PB13/SPI2_SCK, 53 PB14, 54 PB15/SPI2_MOSI, 67 PA8, 68 PA9/OTG_FS_VBUS, 69 PA10/OTG_FS_ID, 70 PA11/OTG_FS_DM, 71 PA12/OTG_FS_DP, 72 PA13/JTMS/SWDIO, 76 PA14/JTCK/SWCLK, 77 PA15/JTDI, 89 PB3/JTDO/TRACESWO, 90 PB4/NJRST, 91 PB5, 92 PB6, 93 PB7, 95 PB8, 96 PB9
part B pins: 7 PC13, 8 PC14/OSC32_IN, 9 PC15/  OSC32_OUT, 15 PC0, 16 PC1, 17 PC2, 18 PC3, 33 PC4, 34 PC5, 55 PD8, 56 PD9, 57 PD10, 58 PD11, 59 PD12, 60 PD13, 61 PD14, 62 PD15, 63 PC6/TIM8_CH1, 64 PC7/TIM3_CH2, 65 PC8, 66 PC9, 78 PC10, 79 PC11, 80 PC12, 81 PD0, 82 PD1, 83 PD2, 84 PD3, 85 PD4, 86 PD5, 87 PD6, 88 PD7
part C pins: 1 PE2, 2 PE3, 3 PE4, 4 PE5, 5 PE6, 12 OSC_IN, 13 OSC_OUT, 14 NRST, 38 PE7, 39 PE8, 40 PE9/TIM1_CH1, 41 PE10, 42 PE11/TIM1_CH2, 43 PE12, 44 PE13, 45 PE14/EXTI14, 46 PE15, 94 BOOT0, 97 PE0, 98 PE1
part D pins: 6 VBAT, 10 VSS, 11 VDD, 19 VDD, 20 VSSA, 21 VREF+, 22 VDDA, 27 VSS, 28 VDD, 49 VCAP_1, 50 VDD, 73 VCAP_2, 74 VSS, 75 VDD, 99 VSS, 100 VDD
part A text: MCU
part B text: MCU
part C text: MCU
part D text: MCU

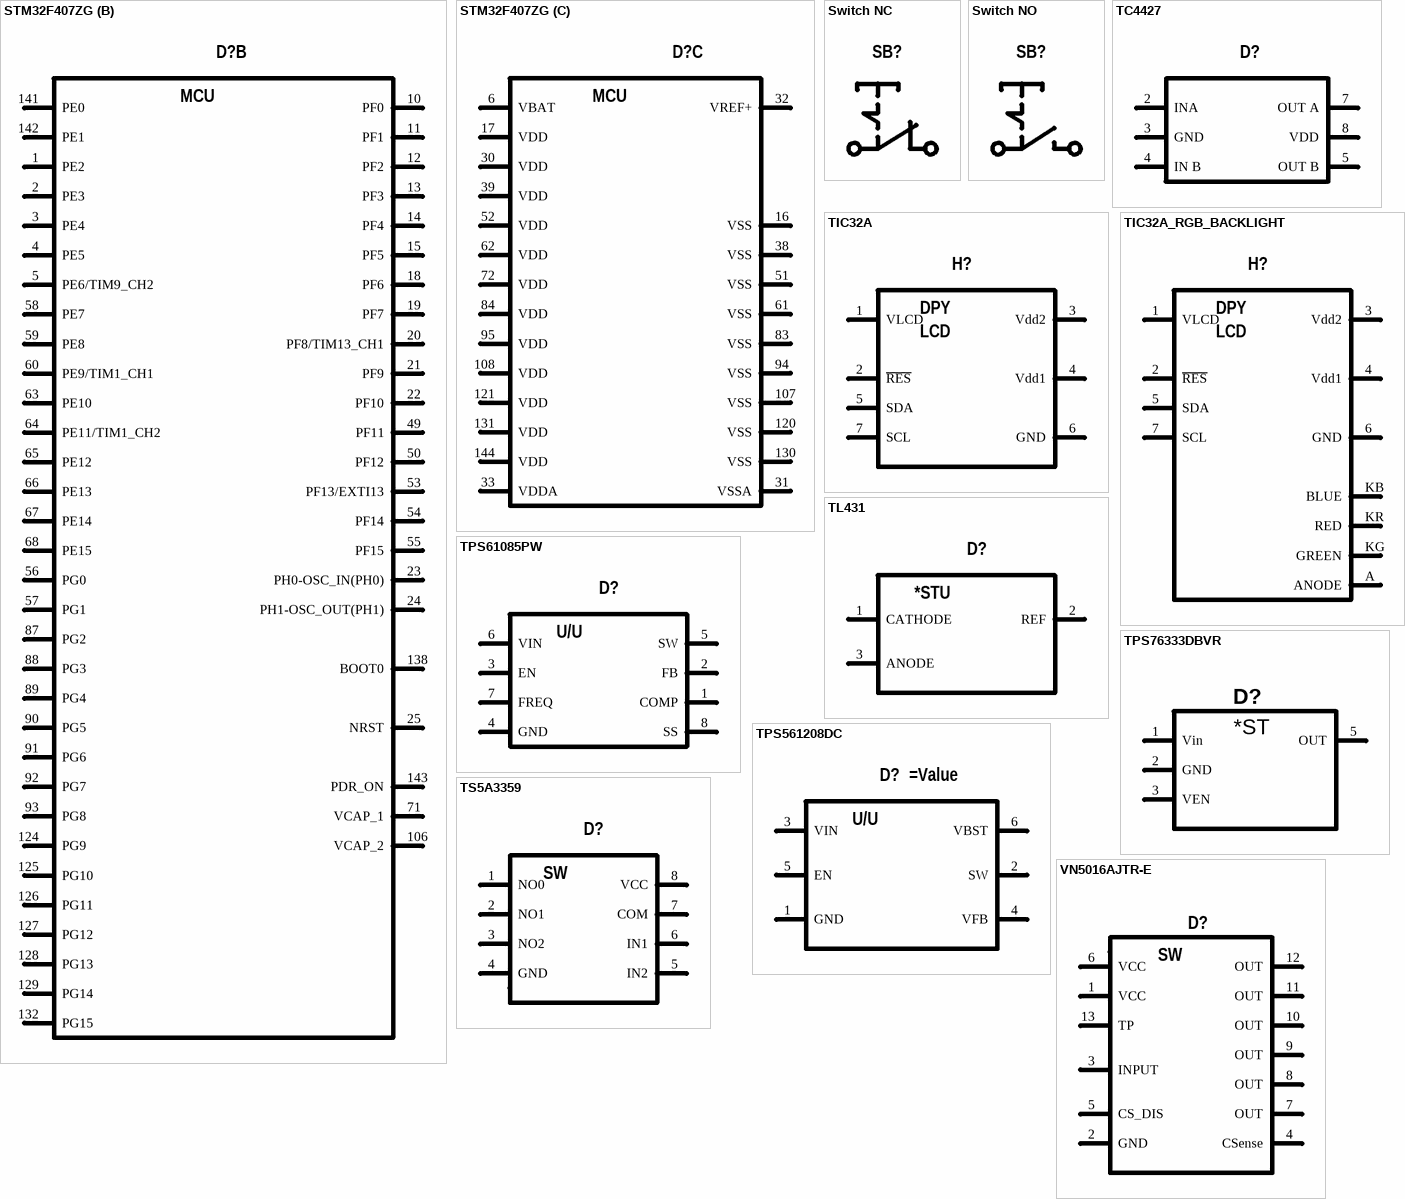
[diagram p8: symbols STM32F407ZG to VN5016AJTR-E]

## STM32F407ZG
designator D?, comment STM32F407VGT6  (value not drawn)
Value: STM32F407VGT6
part A pins: 7 PC13 "PC13/EVENTOUT/RTC_OUT,RTC_TAMP1,RTC_TS", 8 PC14-OSC32_IN(PC14) "PC14-OSC32_IN(PC14)/EVENTOUT/OSC32_IN", 9 PC15-OSC32_OUT(PC15) "PC15-OSC32_OUT(PC15)/EVENTOUT/OSC32_OUT", 26 PC0 "PC0/OTG_HS_ULPI_STP/EVENTOUT/ADC123_IN10", 27 PC1 "PC1/ETH_MDC/EVENTOUT/ADC123_IN11", 28 PC2 "PC2/SPI2_MISO/OTG_HS_ULPI_DIR/ETH_MII_TXD2/I2S2ext_SD/EVENTOUT/ADC123_IN12", 29 PC3 "PC3/SPI2_MOSI/I2S2_SD/OTG_HS_ULPI_NXT/ETH_MII_TX_CLK/EVENTOUT/ADC123_IN13", 34 PA0/UART4_TX "PA0-WKUP(PA0)/USART2_CTS/UART4_TX/ETH_MII_CRS/TIM2_CH1_ETR/TIM5_CH1/TIM8_ETR/EVENTOUT/ADC123_IN0/WKUP", 35 PA1/UART_RX "PA1/USART2_RTS/UART4_RX/ETH_RMII_REF_CLK/ETH_MII_RX_CLK/TIM5_CH2/TIM2_CH2/EVENTOUT/ADC123_IN1", 36 PA2/USART2_TX "PA2/USART2_TX/TIM5_CH3/TIM9_CH1/TIM2_CH3/ETH_MDIO/EVENTOUT/ADC123_IN2", 37 PA3/USART2_RX "PA3/USART2_RX/TIM5_CH4/TIM9_CH2/TIM2_CH4/OTG_HS_ULPI_D0/ETH_MII_COL/EVENTOUT/ADC123_IN3", 40 PA4/DAC_OUT1 "PA4/SPI1_NSS/SPI3_NSS/USART2_CK/DCMI_HSYNC/OTG_HS_SOF/I2S3_WS/EVENTOUT/ADC12_IN4/DAC_OUT1", 41 PA5/SPI1_SCK "PA5/SPI1_SCK/OTG_HS_ULPI_CK/TIM2_CH1_ETR/TIM8_CH1N/EVENTOUT/ADC12_IN5/DAC_OUT2", 42 PA6/SPI1_MISO "PA6/SPI1_MISO/TIM8_BKIN/TIM13_CH1/DCMI_PIXCLK/TIM3_CH1/TIM1_BKIN/EVENTOUT/ADC12_IN6", 43 PA7/SPI1_MOSI "PA7/SPI1_MOSI/TIM8_CH1N/TIM14_CH1/TIM3_CH2/ETH_MII_RX_DV/TIM1_CH1N/ETH_RMII_CRS_DV/EVENTOUT/ADC12_IN7", 44 PC4 "PC4/ETH_RMII_RX_D0/ETH_MII_RX_D0/EVENTOUT/ADC12_IN14", 45 PC5 "PC5/ETH_RMII_RX_D1/ETH_MII_RX_D1/EVENTOUT/ADC12_IN15", 46 PB0 "PB0/TIM3_CH3/TIM8_CH2N/OTG_HS_ULPI_D1/ETH_MII_RXD2/TIM1_CH2N/EVENTOUT/ADC12_IN8", 47 PB1 "PB1/TIM3_CH4/TIM8_CH3N/OTG_HS_ULPI_D2/ETH_MII_RXD3/TIM1_CH3N/EVENTOUT/ADC12_IN9", 48 PB2-BOOT1(PB2) "PB2-BOOT1(PB2)/EVENTOUT", 69 PB10/USART3_TX "PB10/SPI2_SCK/I2S2_CK/I2C2_SCL/USART3_TX/OTG_HS_ULPI_D3/ETH_MII_RX_ER/TIM2_CH3/EVENTOUT", 70 PB11/USART3_RX "PB11/I2C2_SDA/USART3_RX/OTG_HS_ULPI_D4/ETH_RMII_TX_EN/ETH_MII_TX_EN/TIM2_CH4/EVENTOUT", 73 PB12 "PB12/SPI2_NSS/I2S2_WS/I2C2_SMBA/USART3_CK/TIM1_BKIN/CAN2_RX/OTG_HS_ULPI_D5/ETH_RMII_TXD0/ETH_MII_TXD0/OTG_HS_ID/EVENTOUT", 74 PB13/SPI2_SCK "PB13/SPI2_SCK/I2S2_CK/USART3_CTS/TIM1_CH1N/CAN2_TX/OTG_HS_ULPI_D6/ETH_RMII_TXD1/ETH_MII_TXD1/EVENTOUT/OTG_HS_VBUS", 75 PB14/SPI2_MISO "PB14/SPI2_MISO/TIM1_CH2N/TIM12_CH1/OTG_HS_DM/USART3_RTS/TIM8_CH2N/I2S2ext_SD/EVENTOUT", 76 PB15/SPI2_MOSI  "PB15/SPI2_MOSI/I2S2_SD/TIM1_CH3N/TIM8_CH3N/TIM12_CH2/OTG_HS_DP/EVENTOUT/RTC_REFIN", 77 PD8 "PD8/FSMC_D13/USART3_TX/EVENTOUT", 78 PD9 "PD9/FSMC_D14/USART3_RX/EVENTOUT", 79 PD10 "PD10/FSMC_D15/USART3_CK/EVENTOUT", 80 PD11 "PD11/FSMC_CLE/FSMC_A16/USART3_CTS/EVENTOUT", 81 PD12 "PD12/FSMC_ALE/FSMC_A17/TIM4_CH1/USART3_RTS/EVENTOUT", 82 PD13 "PD13/FSMC_A18/TIM4_CH2/EVENTOUT", 85 PD14 "PD14/FSMC_D0/TIM4_CH3/EVENTOUT", 86 PD15 "PD15/FSMC_D1/TIM4_CH4/EVENTOUT", 96 PC6/TIM8_CH1 "PC6/I2S2_MCK/TIM8_CH1/SDIO_D6/USART6_TX/DCMI_D0/TIM3_CH1/EVENTOUT", 97 PC7/TIM3_CH2 "PC7/I2S3_MCK/TIM8_CH2/SDIO_D7/USART6_RX/DCMI_D1/TIM3_CH2/EVENTOUT", 98 PC8/EXTI_8 "PC8/TIM8_CH3/SDIO_D0/TIM3_CH3/USART6_CK/DCMI_D2/EVENTOUT", 99 PC9 "PC9/I2S_CKIN/MCO2/TIM8_CH4/SDIO_D1/I2C3_SDA/DCMI_D3/TIM3_CH4/EVENTOUT", 100 PA8 "PA8/MCO1/USART1_CK/TIM1_CH1/I2C3_SCL/OTG_FS_SOF/EVENTOUT", 101 PA9/OTG_FS_VBUS "PA9/USART1_TX/TIM1_CH2/I2C3_SMBA/DCMI_D0/EVENTOUT/OTG_FS_VBUS", 102 PA10/OTG_FS_ID "PA10/USART1_RX/TIM1_CH3/OTG_FS_ID/DCMI_D1/EVENTOUT", 103 PA11/OTG_FS_DM "PA11/USART1_CTS/CAN1_RX/TIM1_CH4/OTG_FS_DM/EVENTOUT", 104 PA12/OTG_FS_DP "PA12/USART1_RTS/CAN1_TX/TIM1_ETR/OTG_FS_DP/EVENTOUT", 105 PA13(JTMS-SWDIO) "PA13(JTMS-SWDIO)/JTMS-SWDIO/EVENTOUT", 109 PA14(JTCK-SWCLK) "PA14(JTCK-SWCLK)/JTCK-SWCLK/EVENTOUT", 110 PA15(JTDI) "PA15(JTDI)/JTDI/SPI3_NSS/I2S3_WS/TIM2_CH1_ETR/SPI1_NSS/EVENTOUT", 111 PC10/SPI3_SCK "PC10/SPI3_SCK/I2S3_CK/UART4_TX/SDIO_D2/DCMI_D8/USART3_TX/EVENTOUT", 112 PC11/SPI3_MISO "PC11/UART4_RX/SPI3_MISO/SDIO_D3/DCMI_D4/USART3_RX/I2S3ext_SD/EVENTOUT", 113 PC12/SPI3_MOSI "PC12/UART5_TX/SDIO_CK/DCMI_D9/SPI3_MOSI/I2S3_SD/USART3_CK/EVENTOUT", 114 PD0 "PD0/FSMC_D2/CAN1_RX/EVENTOUT", 115 PD1 "PD1/FSMC_D3/CAN1_TX/EVENTOUT", 116 PD2 "PD2/TIM3_ETR/UART5_RX/SDIO_CMD/DCMI_D11/EVENTOUT", 117 PD3 "PD3/FSMC_CLK/USART2_CTS/EVENTOUT", 118 PD4 "PD4/FSMC_NOE/USART2_RTS/EVENTOUT", 119 PD5 "PD5/FSMC_NWE/USART2_TX/EVENTOUT", 122 PD6 "PD6/FSMC_NWAIT/USART2_RX/EVENTOUT", 123 PD7 "PD7/USART2_CK/FSMC_NE1/FSMC_NCE2/EVENTOUT", 133 PB3(JTDO/TRACESWO) "PB3(JTDO/TRACESWO)/JTDO/TRACESWO/SPI3_SCK/I2S3_CK/TIM2_CH2/SPI1_SCK/EVENTOUT", 134 PB4(NJTRST) "PB4(NJTRST)/NJTRST/SPI3_MISO/TIM3_CH1/SPI1_MISO/I2S3ext_SD/EVENTOUT", 135 PB5 "PB5/I2C1_SMBA/CAN2_RX/OTG_HS_ULPI_D7/ETH_PPS_OUT/TIM3_CH2/SPI1_MOSI/SPI3_MOSI/DCMI_D10/I2S3_SD/EVENTOUT", 136 PB6/EXTI6 "PB6/I2C1_SCL/TIM4_CH1/CAN2_TX/DCMI_D5/USART1_TX/EVENTOUT", 137 PB7 "PB7/I2C1_SDA/FSMC_NL/DCMI_VSYNC/USART1_RX/TIM4_CH2/EVENTOUT", 139 PB8/TIM10_CH1 "PB8/TIM4_CH3/SDIO_D4/TIM10_CH1/DCMI_D6/ETH_MII_TXD3/I2C1_SCL/CAN1_RX/EVENTOUT", 140 PB9/TIM11_CH1 "PB9/SPI2_NSS/I2S2_WS/TIM4_CH4/TIM11_CH1/SDIO_D5/DCMI_D7/I2C1_SDA/CAN1_TX/EVENTOUT"
part B pins: 1 PE2 "PE2/TRACECLK/FSMC_A23/ETH_MII_TXD3/EVENTOUT", 2 PE3 "PE3/TRACED0/FSMC_A19/EVENTOUT", 3 PE4 "PE4/TRACED1/FSMC_A20/DCMI_D4/EVENTOUT", 4 PE5 "PE5/TRACED2/FSMC_A21/TIM9_CH1/DCMI_D6/EVENTOUT", 5 PE6/TIM9_CH2 "PE6/TRACED3/FSMC_A22/TIM9_CH2/DCMI_D7/EVENTOUT", 10 PF0 "PF0/FSMC_A0/I2C2_SDA/EVENTOUT", 11 PF1 "PF1/FSMC_A1/I2C2_SCL/EVENTOUT", 12 PF2 "PF2/FSMC_A2/I2C2_SMBA/EVENTOUT", 13 PF3 "PF3/FSMC_A3/EVENTOUT/ADC3_IN9", 14 PF4 "PF4/FSMC_A4/EVENTOUT/ADC3_IN14", 15 PF5 "PF5/FSMC_A5/EVENTOUT/ADC3_IN15", 18 PF6 "PF6/TIM10_CH1/FSMC_NIORD/EVENTOUT/ADC3_IN4", 19 PF7 "PF7/TIM11_CH1/FSMC_NREG/EVENTOUT/ADC3_IN5", 20 PF8/TIM13_CH1 "PF8/TIM13_CH1/FSMC_NIOWR/EVENTOUT/ADC3_IN6", 21 PF9 "PF9/TIM14_CH1/FSMC_CD/EVENTOUT/ADC3_IN7", 22 PF10 "PF10/FSMC_INTR/EVENTOUT/ADC3_IN8", 23 PH0-OSC_IN(PH0) "PH0-OSC_IN(PH0)/EVENTOUT/OSC_IN", 24 PH1-OSC_OUT(PH1) "PH1-OSC_OUT(PH1)/EVENTOUT/OSC_OUT", 25 NRST, 49 PF11 "PF11/DCMI_D12/EVENTOUT", 50 PF12 "PF12/FSMC_A6/EVENTOUT", 53 PF13/EXTI13 "PF13/FSMC_A7/EVENTOUT", 54 PF14 "PF14/FSMC_A8/EVENTOUT", 55 PF15 "PF15/FSMC_A9/EVENTOUT", 56 PG0 "PG0/FSMC_A10/EVENTOUT", 57 PG1 "PG1/FSMC_A11/EVENTOUT", 58 PE7 "PE7/FSMC_D4/TIM1_ETR/EVENTOUT", 59 PE8 "PE8/FSMC_D5/TIM1_CH1N/EVENTOUT", 60 PE9/TIM1_CH1 "PE9/FSMC_D6/TIM1_CH1/EVENTOUT", 63 PE10 "PE10/FSMC_D7/TIM1_CH2N/EVENTOUT", 64 PE11/TIM1_CH2 "PE11/FSMC_D8/TIM1_CH2/EVENTOUT", 65 PE12 "PE12/FSMC_D9/TIM1_CH3N/EVENTOUT", 66 PE13 "PE13/FSMC_D10/TIM1_CH3/EVENTOUT", 67 PE14 "PE14/FSMC_D11/TIM1_CH4/EVENTOUT", 68 PE15 "PE15/FSMC_D12/TIM1_BKIN/EVENTOUT", 71 VCAP_1, 87 PG2 "PG2/FSMC_A12/EVENTOUT", 88 PG3 "PG3/FSMC_A13/EVENTOUT", 89 PG4 "PG4/FSMC_A14/EVENTOUT", 90 PG5 "PG5/FSMC_A15/EVENTOUT", 91 PG6 "PG6/FSMC_INT2/EVENTOUT", 92 PG7 "PG7/FSMC_INT3/USART6_CK/EVENTOUT", 93 PG8 "PG8/USART6_RTS/ETH_PPS_OUT/EVENTOUT", 106 VCAP_2, 124 PG9 "PG9/USART6_RX/FSMC_NE2/FSMC_NCE3/EVENTOUT", 125 PG10 "PG10/FSMC_NCE4_1/FSMC_NE3/EVENTOUT", 126 PG11 "PG11/FSMC_NCE4_2/ETH_MII_TX_EN/ETH_RMII_TX_EN/EVENTOUT", 127 PG12 "PG12/FSMC_NE4/USART6_RTS/EVENTOUT", 128 PG13 "PG13/FSMC_A24/USART6_CTS/ETH_MII_TXD0/ETH_RMII_TXD0/EVENTOUT", 129 PG14 "PG14/FSMC_A25/USART6_TX/ETH_MII_TXD1/ETH_RMII_TXD1/EVENTOUT", 132 PG15 "PG15/USART6_CTS/DCMI_D13/EVENTOUT", 138 BOOT0 "BOOT0/VPP", 141 PE0 "PE0/TIM4_ETR/FSMC_NBL0/DCMI_D2/EVENTOUT", 142 PE1 "PE1/FSMC_NBL1/DCMI_D3/EVENTOUT", 143 PDR_ON
part C pins: 6 VBAT (power), 16 VSS (power), 17 VDD (power), 30 VDD (power), 31 VSSA (power), 32 VREF+ (power), 33 VDDA (power), 38 VSS (power), 39 VDD (power), 51 VSS (power), 52 VDD (power), 61 VSS (power), 62 VDD (power), 72 VDD (power), 83 VSS (power), 84 VDD (power), 94 VSS (power), 95 VDD (power), 107 VSS (power), 108 VDD (power), 120 VSS (power), 121 VDD (power), 130 VSS (power), 131 VDD (power), 144 VDD (power)
part A text: MCU
part B text: MCU
part C text: MCU

## Switch NC
designator SB?
pins: 2, 2

## Switch NO
designator SB?
pins: 2, 2

## TC4427
designator D?
pins: 2 INA, 3 GND, 4 IN B, 5 OUT B, 7 OUT A, 8 VDD

## TIC32A
designator H?  (value not drawn)
Value: TIC32A
pins: 1 VLCD, 2 ~{RES}, 3 Vdd2, 4 Vdd1, 5 SDA, 6 GND, 7 SCL
text: DPY; LCD

## TIC32A_RGB_BACKLIGHT
designator H?, comment TIC32A  (value not drawn)
Value: TIC32A
pins: 1 VLCD, 2 ~{RES}, 3 Vdd2, 4 Vdd1, 5 SDA, 6 GND, 7 SCL, A ANODE, KB BLUE, KG GREEN, KR RED
text: DPY; LCD

## TL431
designator D?  (value not drawn)
Value: TL431IDBZR
footprint TO-92 (Footprint not found)
pins: 1 CATHODE, 2 REF, 3 ANODE
text: *STU

## TPS61085PW
designator D?  (value not drawn)
Step-Up DC-DC Converter; Value: TPS61085PW
footprint TSSOP8
pins: 1 COMP, 2 FB, 3 EN, 4 GND, 5 SW, 6 VIN, 7 FREQ, 8 SS
text: U/U

## TPS76333DBVR
designator D?  (value not drawn)
Value: TPS76333DBVR
footprint SOT95P245X119-5N (SOT23, 5-Leads, Body 3,0x2,6mm (max), Pitch 0,95mm, IPC Medium Density)
pins: 1 Vin, 2 GND, 3 VEN, 5 OUT
text: *ST

## TPS561208DC
designator D?
pins: 1 GND, 2 SW, 3 VIN, 4 VFB, 5 EN, 6 VBST
text: U/U

## TS5A3359
designator D?  (value not drawn)
Value: TS5A3359
pins: 1 NO0, 2 NO1, 3 NO2, 4 GND, 5 IN2, 6 IN1, 7 COM, 8 VCC
text: SW

## VN5016AJTR-E
designator D?  (value not drawn)
Single channel high side driver; Value: VN5016AJTR-E
pins: 1 VCC, 2 GND, 3 INPUT, 4 CSense, 5 CS_DIS, 6 VCC, 7 OUT, 8 OUT, 9 OUT, 10 OUT, 11 OUT, 12 OUT, 13 TP
text: SW

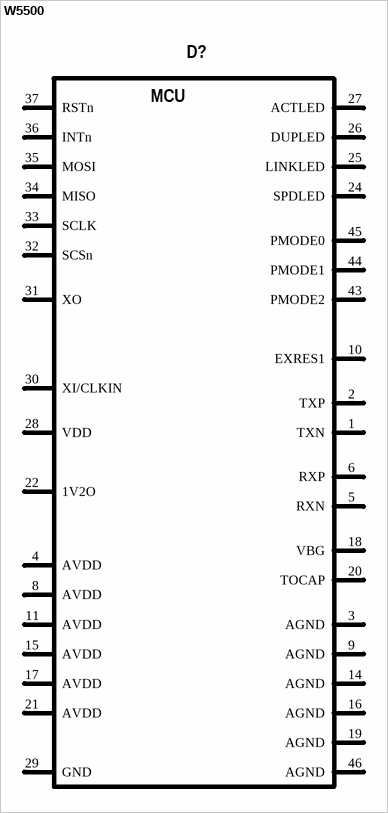
[diagram p9: symbol W5500]

## W5500
designator D?
pins: 1 TXN, 2 TXP, 3 AGND, 4 AVDD, 5 RXN, 6 RXP, 8 AVDD, 9 AGND, 10 EXRES1, 11 AVDD, 14 AGND, 15 AVDD, 16 AGND, 17 AVDD, 18 VBG, 19 AGND, 20 TOCAP, 21 AVDD, 22 1V2O, 24 SPDLED, 25 LINKLED, 26 DUPLED, 27 ACTLED, 28 VDD, 29 GND, 30 XI/CLKIN, 31 XO, 32 SCSn, 33 SCLK, 34 MISO, 35 MOSI, 36 INTn, 37 RSTn, 43 PMODE2, 44 PMODE1, 45 PMODE0, 46 AGND
text: MCU